# Altium schematic symbol library Analog.SchLib: 140 symbols (part 1 of 2)
Pins are listed as number, name and electrical type; pins without a type are passive.

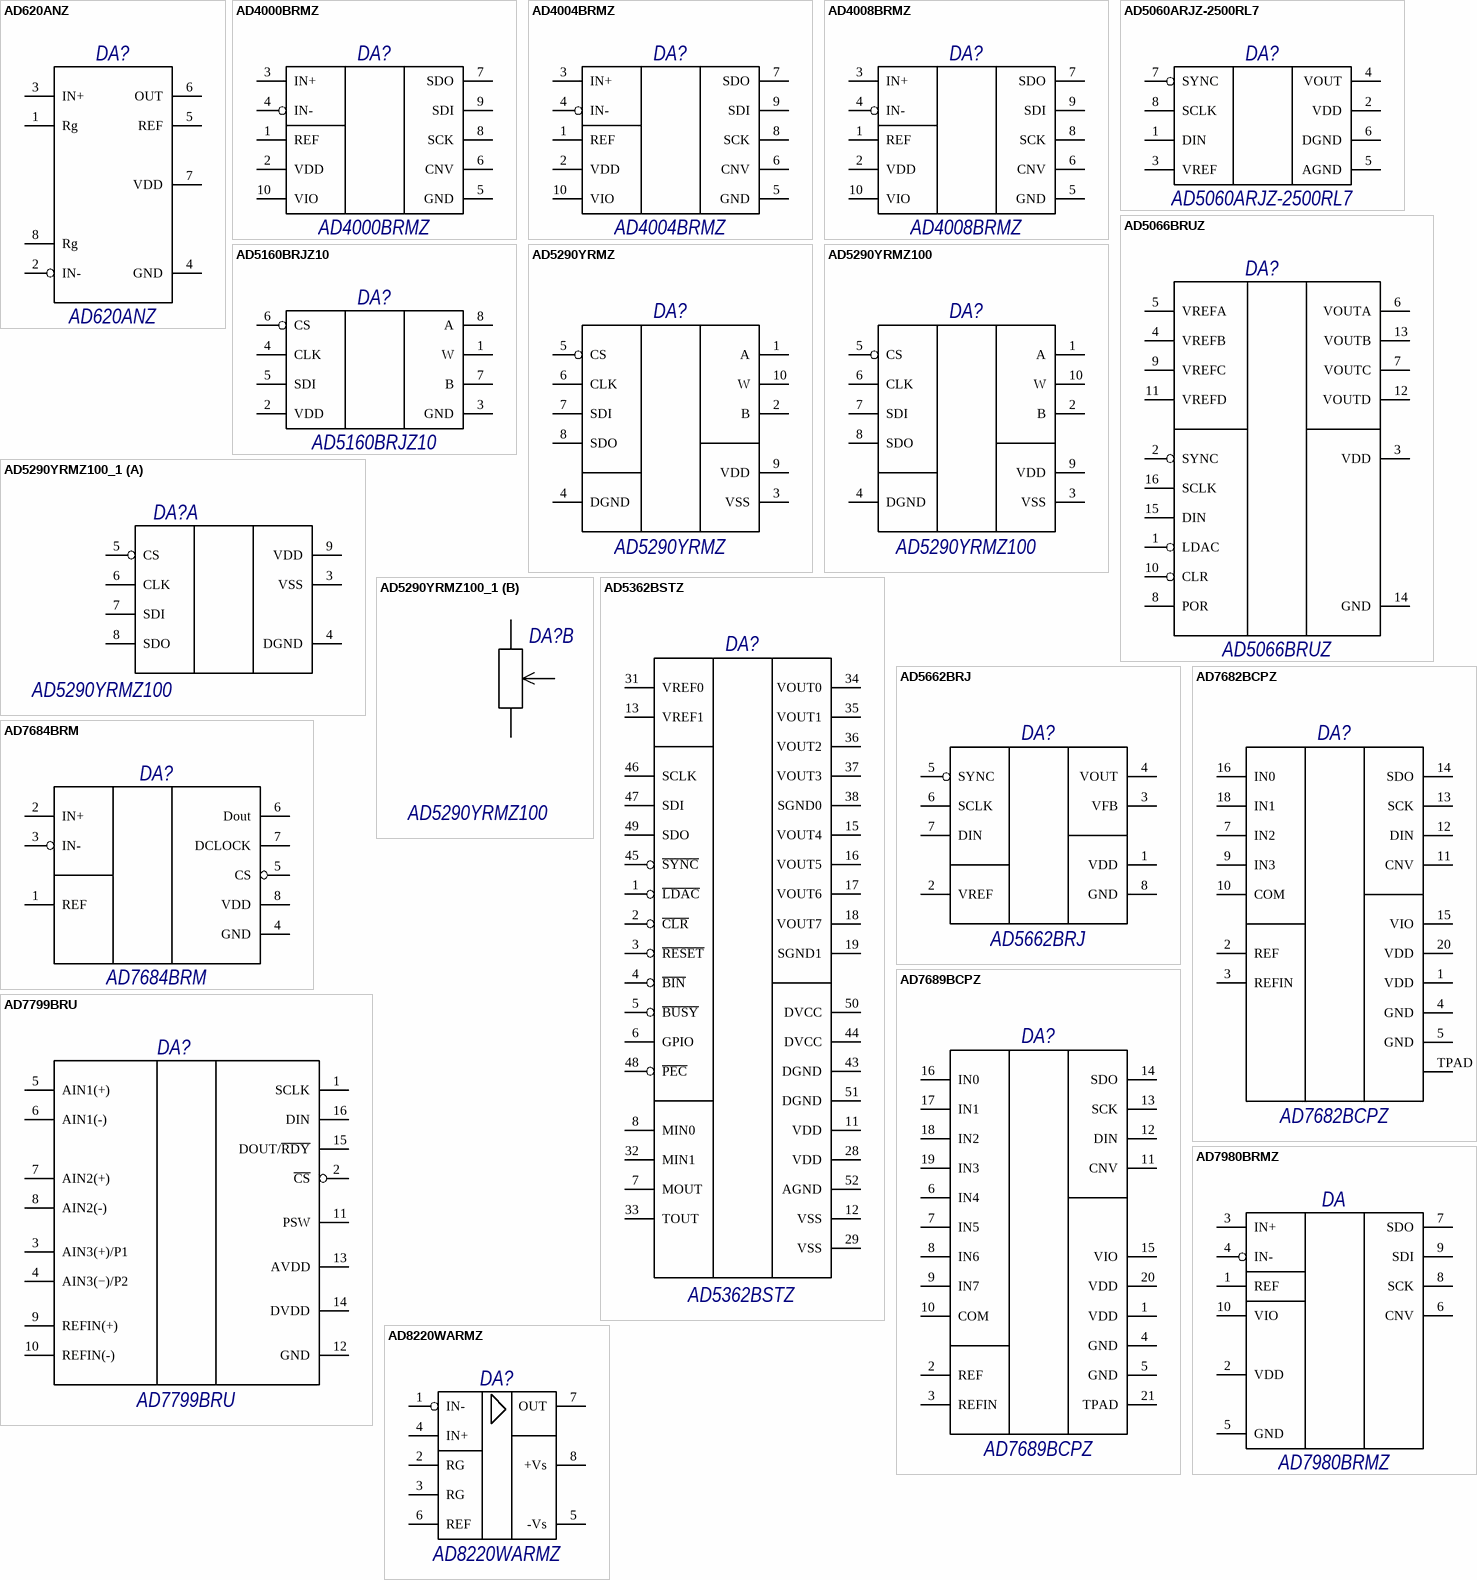
[diagram p0: symbols AD620ANZ to AD8220WARMZ]

## AD620ANZ
designator DA?, comment PartNumber: AD620ANZ  (hidden comment: Микросхема AD620ANZ фирма "Analog Devices")
Low Cost Low PowerInstrumentation Amplifier; Pattern: DIP-8; Manufacturer: Analog Devices; GOST: Микросхема AD620ANZ фирма "Analog Devices"
footprint DIP8W (8-Lead Plastic Dual In-Line Package [PDIP]  Narrow Body (N-8))
pins: 1 Rg, 2 IN-, 3 IN+, 4 GND, 5 REF, 6 OUT, 7 VDD, 8 Rg

## AD4000BRMZ
designator DA?, comment PartNumber: AD4000BRMZ  (hidden comment: Микросхема AD4000BRMZ фирма "Analog Devices")
Precision, Pseudo Differential, SAR ADCs, 16 bit ADC, 2 MSPS; Pattern: MSOP-10; Manufacturer: Analog Devices; GOST: Микросхема AD4000BRMZ фирма "Analog Devices"
footprint MSOP-10 (3.1x1.1mm H=1.1mm)
pins: 1 REF, 2 VDD, 3 IN+, 4 IN-, 5 GND, 6 CNV, 7 SDO, 8 SCK, 9 SDI, 10 VIO

## AD4004BRMZ
designator DA?, comment PartNumber: AD4004BRMZ  (hidden comment: Микросхема AD4004BRMZ фирма "Analog Devices")
Precision, Pseudo Differential, SAR ADCs, 16 bit ADC, 1 MSPS; Pattern: MSOP-10; Manufacturer: Analog Devices; GOST: Микросхема AD4004BRMZ фирма "Analog Devices"
footprint MSOP-10 (3.1x1.1mm H=1.1mm)
pins: 1 REF, 2 VDD, 3 IN+, 4 IN-, 5 GND, 6 CNV, 7 SDO, 8 SCK, 9 SDI, 10 VIO

## AD4008BRMZ
designator DA?, comment PartNumber: AD4008BRMZ  (hidden comment: Микросхема AD4008BRMZ фирма "Analog Devices")
Precision, Pseudo Differential, SAR ADCs, 16 bit ADC, 500 KSPS; Pattern: MSOP-10; Manufacturer: Analog Devices; GOST: Микросхема AD4008BRMZ фирма "Analog Devices"
footprint MSOP-10 (3.1x1.1mm H=1.1mm)
pins: 1 REF, 2 VDD, 3 IN+, 4 IN-, 5 GND, 6 CNV, 7 SDO, 8 SCK, 9 SDI, 10 VIO

## AD5060ARJZ-2500RL7
designator DA?, comment PartNumber: AD5060ARJZ-2500RL7  (hidden comment: Микросхема AD5060ARJZ-2500RL7 фирма "Analog Devices")
16 Bit Digital to Analog Converter 1 SOT-23-8; Manufacturer: Analog Devices; Pattern: SOT-23-8; GOST: Микросхема AD5060ARJZ-2500RL7 фирма "Analog Devices"
footprint SOT-23-8
pins: 1 DIN, 2 VDD, 3 VREF, 4 VOUT, 5 AGND, 6 DGND, 7 SYNC, 8 SCLK

## AD5066BRUZ
designator DA?, comment PartNumber: AD5066BRUZ  (hidden comment: Микросхема AD5066BRUZ фирма "Analog Devices")
16 Bit Digital to Analog Converter 4 16-TSSOP; Pattern: TSSOP-16; Manufacturer: Analog Devices; GOST: Микросхема AD5066BRUZ фирма "Analog Devices"
footprint TSSOP-16 (B=6.6mm Korp=5.1x4.5mm H=1.2mm Pitch=0.65mm)
pins: 1 LDAC, 2 SYNC, 3 VDD, 4 VREFB, 5 VREFA, 6 VOUTA, 7 VOUTC, 8 POR, 9 VREFC, 10 CLR, 11 VREFD, 12 VOUTD, 13 VOUTB, 14 GND, 15 DIN, 16 SCLK

## AD5160BRJZ10
designator DA?, comment PurtNumber: AD5160BRJZ10  (hidden comment: Микросхема AD5160BRJZ10 фирма "Analog Devices")
256-Position SPI Digital Potentiometer 10к; Pattern: SOT-23; Manufacturer: Analog Devices; Name: Digital Potentiometer; GOST: Микросхема AD5160BRJZ10 фирма "Analog Devices"
footprint SOT-23-8
pins: 1 W, 2 VDD, 3 GND, 4 CLK, 5 SDI, 6 CS, 7 B, 8 A

## AD5290YRMZ
designator DA?, comment PartNumber: AD5290YRMZ  (hidden comment: Микросхема AD5290YRMZ фирма "Analog Devices")
Compact +30 V / ±15 V 256-Position   Digital Potentiometer; GOST: Микросхема AD5290YRMZ фирма "Analog Devices"
footprint MSOP-10 (3.1x1.1mm H=1.1mm)
pins: 1 A, 2 B, 3 VSS, 4 DGND, 5 CS, 6 CLK, 7 SDI, 8 SDO, 9 VDD, 10 W

## AD5290YRMZ100
designator DA?, comment PartNumber: AD5290YRMZ100  (hidden comment: Микросхема AD5290YRMZ100 фирма "Analog Devices")
Compact +30 V / ±15 V 256-Position   Digital Potentiometer AB=100 кОм; GOST: Микросхема AD5290YRMZ100 фирма "Analog Devices"
footprint MSOP-10 (3.1x1.1mm H=1.1mm)
pins: 1 A, 2 B, 3 VSS, 4 DGND, 5 CS, 6 CLK, 7 SDI, 8 SDO, 9 VDD, 10 W

## AD5290YRMZ100_1
designator DA?, comment PartNumber: AD5290YRMZ100  (hidden comment: Микросхема AD5290YRMZ100 фирма "Analog Devices")
36V, Low Digital Potentiometer 100k Ohm 1 Circuit 256 Taps SPI Interface 10-MSOP; Prefix: DA; Manufacturer: Analog Devices; Pattern: 10-MSOP; GOST: Микросхема AD5290YRMZ100 фирма "Analog Devices"
footprint MSOP-10 (3.1x3.1mm H=1.1mm)
part A pins: 3 VSS, 4 DGND, 5 CS, 6 CLK, 7 SDI, 8 SDO, 9 VDD
part B pins: 1 A, 2 B, 10 W

## AD5362BSTZ
designator DA?, comment PartNumber: AD5362BSTZ  (hidden comment: Микросхема AD5362BSTZ фирма "Analog Devices")
8-Channel, 16-/14-Bit, Serial Input, Voltage Output DAC; GOST: Микросхема AD5362BSTZ фирма "Analog Devices"
footprint LQFP-52 (body 10x10mm H=1.6mm  step 0.65mm (52-Lead Low Profile Quad Flat Package [LQFP]   (ST-52)))
pins: 1 ~{LDAC}, 2 ~{CLR}, 3 ~{RESET}, 4 ~{BIN}, 5 ~{BUSY}, 6 GPIO, 7 MOUT, 8 MIN0, 11 VDD, 12 VSS, 13 VREF1, 15 VOUT4, 16 VOUT5, 17 VOUT6, 18 VOUT7, 19 SGND1, 28 VDD, 29 VSS, 31 VREF0, 32 MIN1, 33 TOUT, 34 VOUT0, 35 VOUT1, 36 VOUT2, 37 VOUT3, 38 SGND0, 43 DGND, 44 DVCC, 45 ~{SYNC}, 46 SCLK, 47 SDI, 48 ~{PEC}, 49 SDO, 50 DVCC, 51 DGND, 52 AGND

## AD5662BRJ
designator DA?, comment PartNumber: AD5662BRJ  (hidden comment: Микросхема AD5662BRJ фирма "Analog Devices")
2.7 V to 5.5 V, 250 μA, Rail-to-Rail Output  16-Bit nano DAC TM in a SOT-23; GOST: Микросхема AD5662BRJ фирма "Analog Devices"
footprint SOT-23-8
pins: 1 VDD, 2 VREF, 3 VFB, 4 VOUT, 5 SYNC, 6 SCLK, 7 DIN, 8 GND

## AD7682BCPZ
designator DA?, comment PartNumber: AD7682BCPZ  (hidden comment: Микросхема AD7682BCPZ фирма "Analog Devices")
16-Bit, 4-Channel, 250 kSPS PulSAR  ADCs; GOST: Микросхема AD7682BCPZ фирма "Analog Devices"
footprint LFCSP-20 (CP-20-10) (20-Lead Lead Frame Chip Scale Package [LFCSP]  4mm x 4mm Body and 0.75 mm Package Height  (CP-20-10))
footprint LFCSP-20 (CP-20-10) - maska (20-Lead Lead Frame Chip Scale Package [LFCSP]  4mm x 4mm Body and 0.75 mm Package Height  (CP-20-10), изменеа маска пайки радиатора и убраны отв, увеличина длина площадок из под корпуса)
pins: 1 VDD, 2 REF, 3 REFIN, 4 GND, 5 GND, 7 IN2, 9 IN3, 10 COM, 11 CNV, 12 DIN, 13 SCK, 14 SDO, 15 VIO, 16 IN0, 18 IN1, 20 VDD, TPAD

## AD7684BRM
designator DA?, comment PartNumber: AD7684BRM  (hidden comment: Микросхема AD7684BRM фирма "Analog Devices")
16-Bit, 100 kSPS PulSAR,Differential ADC in MSOP-8; Manufacturer: Analog Devices; Pattern: MSOP-8; GOST: Микросхема AD7684BRM фирма "Analog Devices"
footprint MSOP-8 (3x3mm   Micro8, RM-8)
pins: 1 REF, 2 IN+, 3 IN-, 4 GND, 5 CS, 6 Dout, 7 DCLOCK, 8 VDD

## AD7689BCPZ
designator DA?, comment PartNumber: AD7689BCPZ  (hidden comment: Микросхема AD7689BCPZ фирма "Analog Devices")
16-Bit, 8-Channel,  250 kSPS   PulSAR  ADCs; GOST: Микросхема AD7689BCPZ фирма "Analog Devices"
footprint LFCSP-20 (CP-20-10) (20-Lead Lead Frame Chip Scale Package [LFCSP]  4mm x 4mm Body and 0.75 mm Package Height  (CP-20-10))
pins: 1 VDD, 2 REF, 3 REFIN, 4 GND, 5 GND, 6 IN4, 7 IN5, 8 IN6, 9 IN7, 10 COM, 11 CNV, 12 DIN, 13 SCK, 14 SDO, 15 VIO, 16 IN0, 17 IN1, 18 IN2, 19 IN3, 20 VDD, 21 TPAD

## AD7799BRU
designator DA?, comment PartNumber: AD7799BRU  (hidden comment: Микросхема AD7799BRU фирма "Analog Devices")
3-Channel, Low Noise, Low Power,  16-/24-Bit, Σ - Δ ADC with On-Chip In-Amp; GOST: Микросхема AD7799BRU фирма "Analog Devices"
footprint TSSOP-16 (B=6.6mm Korp=5.1x4.5mm H=1.2mm Pitch=0.65mm)
pins: 1 SCLK, 2 ~{CS}, 3 AIN3(+)/P1, 4 AIN3(−)/P2, 5 AIN1(+), 6 AIN1(-), 7 AIN2(+), 8 AIN2(-), 9 REFIN(+), 10 REFIN(-), 11 PSW, 12 GND, 13 AVDD, 14 DVDD, 15 DOUT/~{RDY}, 16 DIN

## AD7980BRMZ
designator DA, comment PartNumber: AD7980BRMZ  (hidden comment: Микросхема AD7980BRMZ фирма "Analog Devices")
16-Bit, 1 MSPS,  PulSAR ADC in MSOP/LFCSP; Name: 16 bit ADC, 1 MSPS; Pattern: MSOP-10; Manufacturer: Analog Device; GOST: Микросхема AD7980BRMZ фирма "Analog Devices"
footprint MSOP-10 (3.1x1.1mm H=1.1mm)
pins: 1 REF, 2 VDD, 3 IN+, 4 IN-, 5 GND, 6 CNV, 7 SDO, 8 SCK, 9 SDI, 10 VIO

## AD8220WARMZ
designator DA?, comment PartNumber: AD8220WARMZ  (hidden comment: Микросхема AD8220WARMZ фирма "Analog Devices")
Instrumentation Amplifier 1 Circuit Rail-to-Rail 8-MSOP; Manufacturer: Analog Devices; Name: Instrumentation Amplifier 1 Circuit Rail-to-Rail 8-MSOP; GOST: Микросхема AD8220WARMZ фирма "Analog Devices"
footprint MSOP-8 (3x3mm   Micro8, RM-8)
pins: 1 IN-, 2 RG, 3 RG, 4 IN+, 5 -Vs, 6 REF, 7 OUT, 8 +Vs

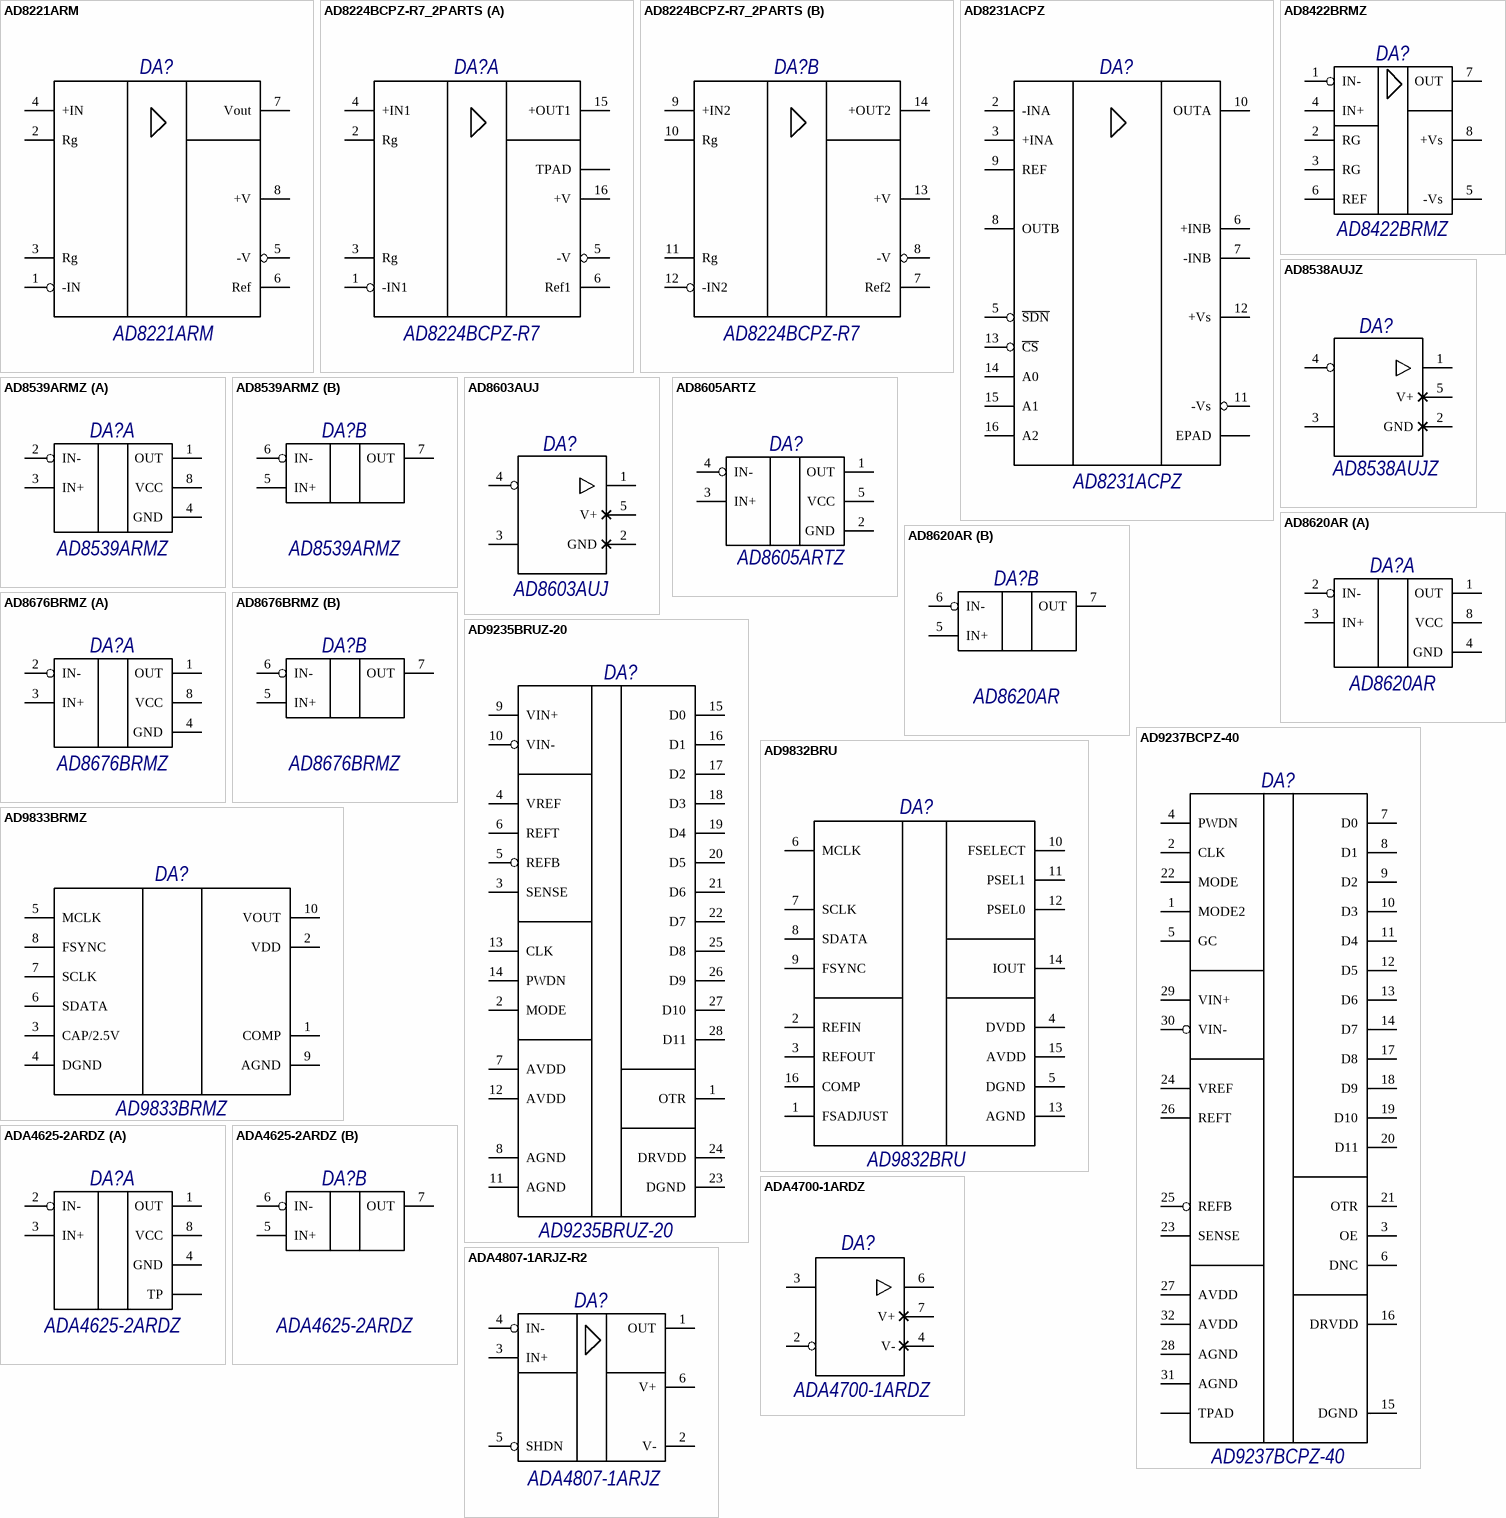
[diagram p1: symbols AD8221ARM to ADA4807-1ARJZ-R2]

## AD8221ARM
designator DA?, comment PartNumber: AD8221ARM  (hidden comment: Микросхема AD8221ARM фирма "Analog Devices")
Precision Instrumentation Amplifier, +85 C; GOST: Микросхема AD8221ARM фирма "Analog Devices"
footprint MSOP-8 (3x3mm   Micro8, RM-8)
pins: 1 -IN, 2 Rg, 3 Rg, 4 +IN, 5 -V, 6 Ref, 7 Vout, 8 +V

## AD8224BCPZ-R7_2PARTS
designator DA?, comment PartNumber: AD8224BCPZ-R7  (hidden comment: Микросхема AD8224BCPZ-R7 фирма "Analog Devices")
Ultralow Power, Low Distortion,  Fully Differential ADC Drivers; GOST: Микросхема AD8224BCPZ-R7 фирма "Analog Devices"
part A pins: 1 -IN1, 2 Rg, 3 Rg, 4 +IN1, 5 -V, 6 Ref1, 15 +OUT1, 16 +V, TPAD
part B pins: 7 Ref2, 8 -V, 9 +IN2, 10 Rg, 11 Rg, 12 -IN2, 13 +V, 14 +OUT2

## AD8231ACPZ
designator DA?, comment PartNumber: AD8231ACPZ  (hidden comment: Микросхема AD8231ACPZ фирма "Analog Devices")
Zero Drift, Digitally Programmable Instrumentation Amplifier; GOST: Микросхема AD8231ACPZ фирма "Analog Devices"
footprint LFCSP-16 (CP-16-23) (16-Lead Lead Frame Chip Scale Package [LFCSP]  4 mm x 4 mm Body and 0.75 mm Package Height  (CP-16-23) AD)
pins: 2 -INA, 3 +INA, 5 ~{SDN}, 6 +INB, 7 -INB, 8 OUTB, 9 REF, 10 OUTA, 11 -Vs, 12 +Vs, 13 ~{CS}, 14 A0, 15 A1, 16 A2, TPAD EPAD

## AD8422BRMZ
designator DA?, comment PartNumber: AD8422BRMZ  (hidden comment: Микросхема AD8422BRMZ фирма "Analog Devices")
High Performance, Low Power, Rail-to-Rail Precision Instrumentation Amplifier 2MHz, MSOP-8; Name: Instrumentation Amplifier 1 Circuit Rail-to-Rail 8-MSOP; Manufacturer: Analog Devices; GOST: Микросхема AD8422BRMZ фирма "Analog Devices"
footprint MSOP-8 (3x3mm   Micro8, RM-8)
pins: 1 IN-, 2 RG, 3 RG, 4 IN+, 5 -Vs, 6 REF, 7 OUT, 8 +Vs

## AD8538AUJZ
designator DA?, comment PartNumber: AD8538AUJZ  (hidden comment: Микросхема AD8538AUJZ фирма "Analog Devices")
Low Power, Precision, Auto-Zero Op Amps; GOST: Микросхема AD8538AUJZ фирма "Analog Devices"
footprint TSOT-23-5 (Корпус 2.9х1.6х1 step 0.95mm)
pins: 1, 2 GND, 3, 4, 5 V+

## AD8539ARMZ
designator DA?, comment PartNumber: AD8539ARMZ  (hidden comment: Микросхема AD8539ARMZ фирма "Analog Devices")
Low Power, Precision, Auto-Zero Op Amps; Name: Operational Amplifier; Pattern: 8-Lead MSOP (RM-8); Prefix: DA; Manufacturer: Analog Devices; GOST: Микросхема AD8539ARMZ фирма "Analog Devices"
footprint MSOP-8 (3x3mm   Micro8, RM-8)
part A pins: 1 OUT, 2 IN-, 3 IN+, 4 GND (power), 8 VCC (power)
part B pins: 5 IN+, 6 IN-, 7 OUT

## AD8603AUJ
designator DA?, comment PartNumber: AD8603AUJ  (hidden comment: Микросхема AD8603AUJ фирма "Analog Devices")
Precision Micropower, Low Noise CMOS,  Rail-to-Rail Input/Output Operational Amplifiers; GOST: Микросхема AD8603AUJ фирма "Analog Devices"
footprint SOT-23-5
pins: 1, 2 GND, 3, 4, 5 V+

## AD8605ARTZ
designator DA?, comment PartNumber: AD8605ARTZ  (hidden comment: Микросхема AD8605ARTZ фирма "Analog Devices")
Precision, Low Noise, CMOS, Rail-to-Rail, Input/Output Operational Amplifiers; GOST: Микросхема AD8605ARTZ фирма "Analog Devices"
footprint SOT-23-5
pins: 1 OUT, 2 GND (power), 3 IN+, 4 IN-, 5 VCC (power)

## AD8620AR
designator DA?, comment PartNumber: AD8620AR  (hidden comment: Микросхема AD8620AR фирма "Analog Devices")
Precision, Very Low Noise, Low Input Bias Current, Wide Bandwidth JFET Operational Amplifiers; Pattern: SO-8; Prefix: DA; Manufacturer: Analog Devices; Name: Operational Amplifier; GOST: Микросхема AD8620AR фирма "Analog Devices"
footprint SO-8 (S8 Package (AD)) (5x4mm H=1.75mm - S8 Package 8-Lead Plastic Small Outline (Narrow .150 Inch) (AD))
part A pins: 1 OUT, 2 IN-, 3 IN+, 4 GND (power), 8 VCC (power)
part B pins: 5 IN+, 6 IN-, 7 OUT

## AD8676BRMZ
designator DA?, comment PartNumber: AD8676BRMZ  (hidden comment: Микросхема AD8676BRMZ фирма "Analog Devices")
Ultraprecision, 36 V, 2.8 nV/√Hz  Dual Rail-to-Rail Output Op Amp; Name: Operational Amplifier; Pattern: 8-Lead MSOP (RM-8); Prefix: DA; Manufacturer: Analog Devices; GOST: Микросхема AD8676BRMZ фирма "Analog Devices"
footprint MSOP-8 (3x3mm   Micro8, RM-8)
part A pins: 1 OUT, 2 IN-, 3 IN+, 4 GND (power), 8 VCC (power)
part B pins: 5 IN+, 6 IN-, 7 OUT

## AD9235BRUZ-20
designator DA?, comment PartNumber: AD9235BRUZ-20  (hidden comment: Микросхема AD9235BRUZ-20 фирма "Analog Devices")
Analog to Digital Converters - ADC 12-BIT 3V 20 MSPS ADC; Pattern: TSSOP-28; Manufacturer: Analog Devices; GOST: Микросхема AD9235BRUZ-20 фирма "Analog Devices"
footprint TSSOP-28 (body 9.7x4.4mm H=1.2mm pitch 0.65mm)
pins: 1 OTR, 2 MODE, 3 SENSE, 4 VREF, 5 REFB, 6 REFT, 7 AVDD, 8 AGND, 9 VIN+, 10 VIN-, 11 AGND, 12 AVDD, 13 CLK, 14 PWDN, 15 D0, 16 D1, 17 D2, 18 D3, 19 D4, 20 D5, 21 D6, 22 D7, 23 DGND, 24 DRVDD, 25 D8, 26 D9, 27 D10, 28 D11

## AD9237BCPZ-40
designator DA?, comment PartNumber: AD9237BCPZ-40  (hidden comment: Микросхема AD9237BCPZ-40 фирма "Analog Devices")
Analog to Digital Converters - ADC 12-BIT 3V 40 MSPS ADC; Pattern: LFCSP-32; Manufacturer: Analog Devices; GOST: Микросхема AD9237BCPZ-40 фирма "Analog Devices"
footprint LFCSP_WQ-32 (CP-32-7) (32-Lead Lead Frame Chip Scale Package [LFCSP_WQ]  5 mm ? 5 mm Body, Very Very Thin Quad  (CP-32-7))
pins: 1 MODE2, 2 CLK, 3 OE, 4 PWDN, 5 GC, 6 DNC, 7 D0, 8 D1, 9 D2, 10 D3, 11 D4, 12 D5, 13 D6, 14 D7, 15 DGND, 16 DRVDD, 17 D8, 18 D9, 19 D10, 20 D11, 21 OTR, 22 MODE, 23 SENSE, 24 VREF, 25 REFB, 26 REFT, 27 AVDD, 28 AGND, 29 VIN+, 30 VIN-, 31 AGND, 32 AVDD, TPAD

## AD9832BRU
designator DA?, comment PartNumber: AD9832BRU  (hidden comment: Микросхема AD9832BRU фирма "Analog Devices")
25 MHz Direct Digital Synthesizer,  Waveform Generator; GOST: Микросхема AD9832BRU фирма "Analog Devices"
footprint TSSOP-16 (5.1x4.5mm H=1.2mm)
pins: 1 FSADJUST, 2 REFIN, 3 REFOUT, 4 DVDD, 5 DGND, 6 MCLK, 7 SCLK, 8 SDATA, 9 FSYNC, 10 FSELECT, 11 PSEL1, 12 PSEL0, 13 AGND, 14 IOUT, 15 AVDD, 16 COMP

## AD9833BRMZ
designator DA?, comment PartNumber: AD9833BRMZ  (hidden comment: Микросхема AD9833BRMZ фирма "Analog Devices")
25 MHz Direct Digital Synthesizer,  Waveform Generator; GOST: Микросхема AD9833BRMZ фирма "Analog Devices"
footprint MSOP-10 (3.1x1.1mm H=1.1mm)
pins: 1 COMP, 2 VDD, 3 CAP/2.5V, 4 DGND, 5 MCLK, 6 SDATA, 7 SCLK, 8 FSYNC, 9 AGND, 10 VOUT

## ADA4625-2ARDZ
designator DA?, comment PartNumber: ADA4625-2ARDZ  (hidden comment: Микросхема ADA4625-2ARDZ фирма "Analog Devices")
36 V, 18 MHz, Low Noise, Fast Settling  Single Supply, RRO, JFET Op Amp; Name: Operational Amplifier; Pattern: 8-Lead Standard Small Outline Package with Exposed Pad [SOIC_N_EP]  Narrow Body  (RD-8-1); Prefix: DA; Manufacturer: Analog Devices; GOST: Микросхема ADA4625-2ARDZ фирма "Analog Devices"
footprint SO-8_N_EP (RD-8-1, RD-8-2) (5x4mm H=1.75mm 8-Lead Standard Small Outline Package with Exposed Pad [SOIC_N_EP] Narrow Body (RD-8-1, RD-8-2))
part A pins: 1 OUT, 2 IN-, 3 IN+, 4 GND (power), 8 VCC (power), TP (power)
part B pins: 5 IN+, 6 IN-, 7 OUT

## ADA4700-1ARDZ
designator DA?, comment PartNumber: ADA4700-1ARDZ  (hidden comment: Микросхема ADA4700-1ARDZ фирма "Analog Devices")
General Purpose Amplifier 1 Circuit Rail-to-Rail 8-SOIC-EP; GOST: Микросхема ADA4700-1ARDZ фирма "Analog Devices"
footprint SO-8_N_EP (5x4mm H=1.75mm 8-Lead Standard Small Outline Package with Exposed Pad [SOIC_N_EP]Narrow Body(RD-8-2))
pins: 2, 3, 4 V-, 6, 7 V+, TP

## ADA4807-1ARJZ-R2
designator DA?, comment Name: ADA4807-1ARJZ  (hidden comment: Микросхема ADA4807-1ARJZ-R2 фирма "Analog Devices")
180MHz, 1mA Power  Efficient Rail-to-Rail  I/O Opamp; Pattern: TSOT-23; Prefix: DA?; Manufacturer: Analog Devices; GOST: Микросхема ADA4807-1ARJZ-R2 фирма "Analog Devices"
footprint SOT-23-6
pins: 1 OUT, 2 V-, 3 IN+, 4 IN-, 5 SHDN, 6 V+

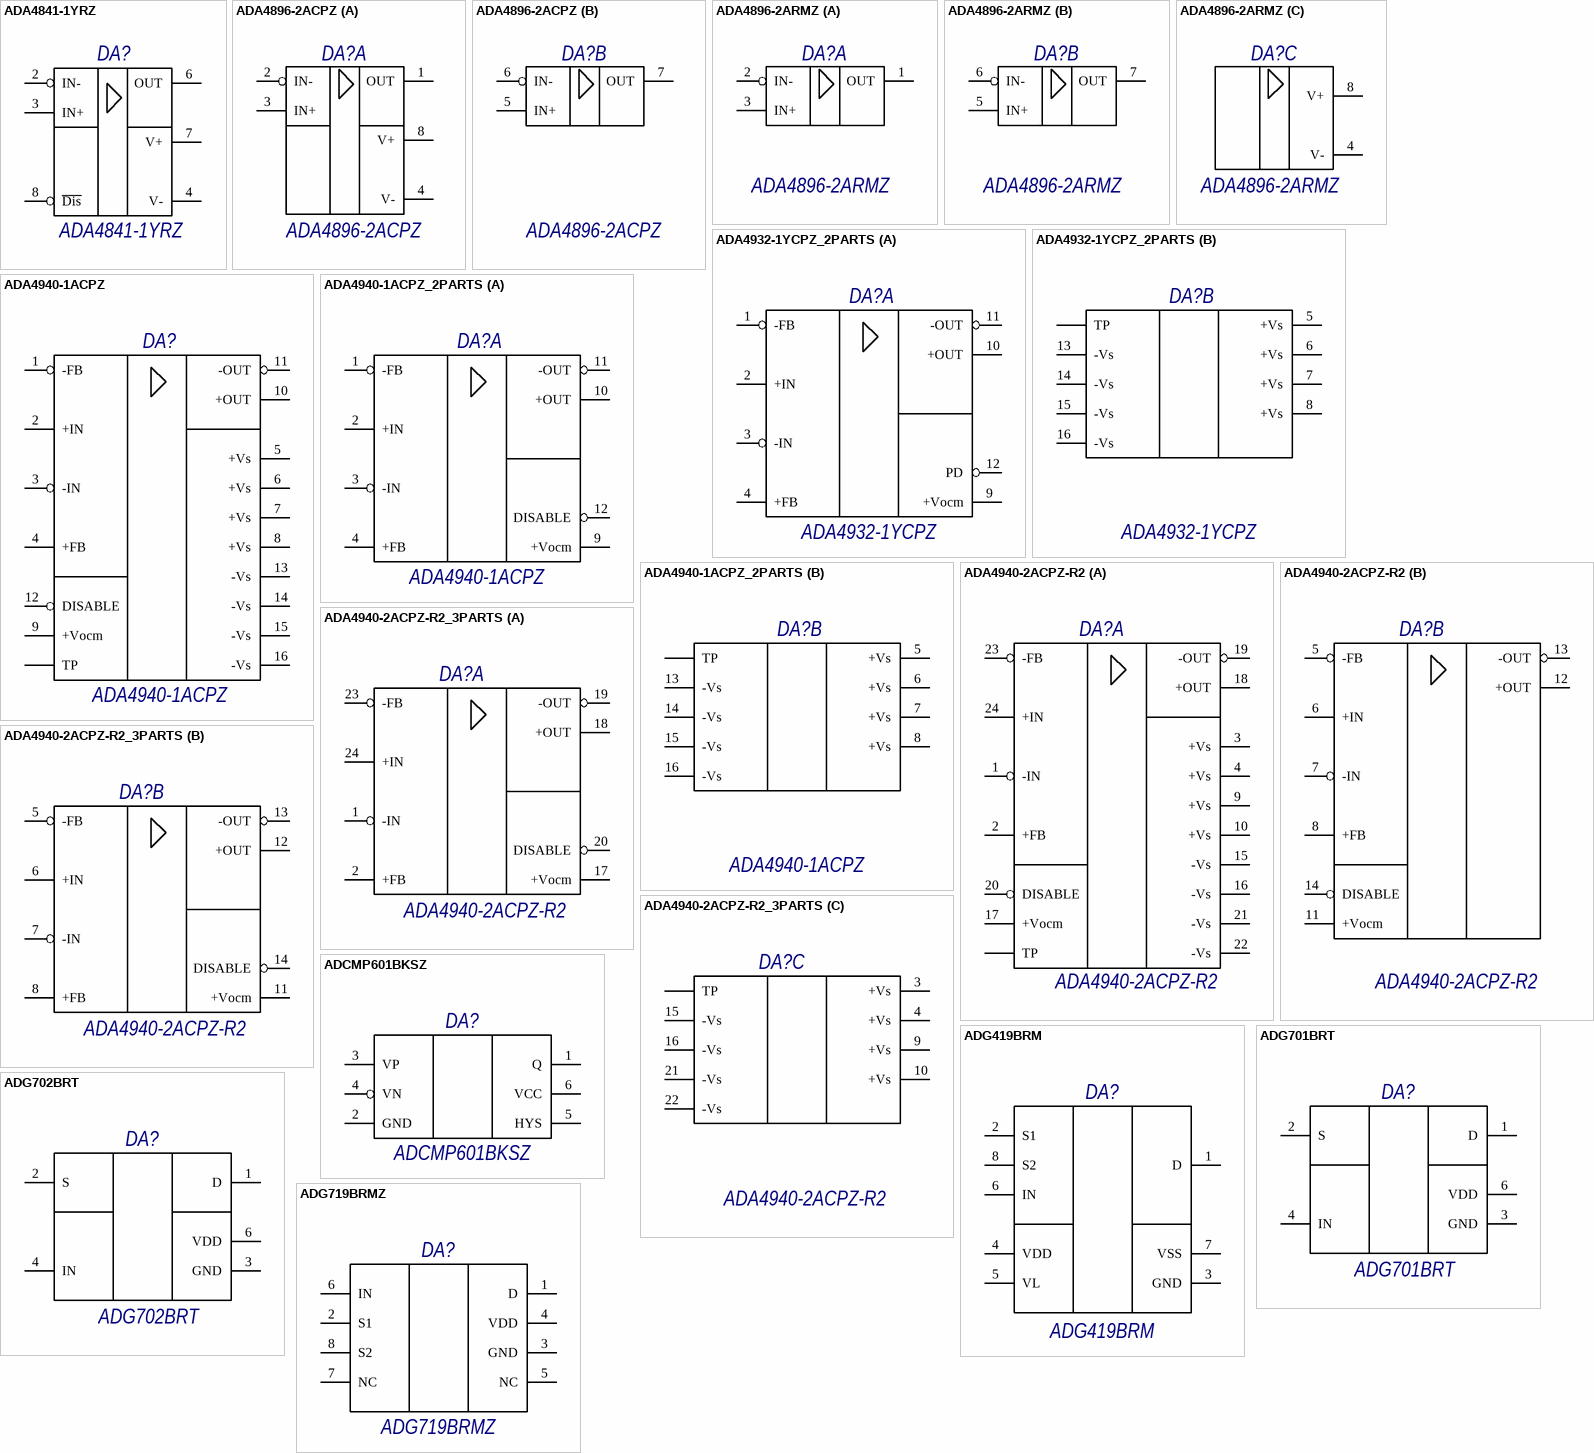
[diagram p2: symbols ADA4841-1YRZ to ADG719BRMZ]

## ADA4841-1YRZ
designator DA?, comment Name: ADA4841-1YRZ  (hidden comment: Микросхема ADA4841-1YRZ фирма "Analog Devices")
Low Power, Low Noise and Distortion, Rail-to-Rail Output Amplifiers; Pattern: SO-8; Prefix: DA?; Manufacturer: Analog Devices; GOST: Микросхема ADA4841-1YRZ фирма "Analog Devices"
footprint SO-8 (5x4mm H=1.75mm)
pins: 2 IN-, 3 IN+, 4 V-, 6 OUT, 7 V+, 8 ~{Dis}

## ADA4896-2ACPZ
designator DA?, comment PartNumber: ADA4896-2ACPZ  (hidden comment: Микросхема ADA4896-2ACPZ фирма "Analog Devices")
1 nV/√Hz, Low Power,  Rail-to-Rail Output Amplifiers; Pattern: 8-Lead LFCSP_WD (CP-8-11); GOST: Микросхема ADA4896-2ACPZ фирма "Analog Devices"
footprint LFCSP_WD (CP-8-11) (8-Lead Lead Frame Chip Scale Package [LFCSP_WD]   3 mm ? 3 mm Body, Very Very Thin, Dual Lead    (CP-8-11))
part A pins: 1 OUT, 2 IN-, 3 IN+, 4 V-, 8 V+
part B pins: 5 IN+, 6 IN-, 7 OUT

## ADA4896-2ARMZ
designator DA?, comment PartNumber: ADA4896-2ARMZ  (hidden comment: Микросхема ADA4896-2ARMZ фирма "Analog Devices")
1 nV/√Hz, Low Power,  Rail-to-Rail Output Amplifiers; Pattern: MSOP-8; GOST: Микросхема ADA4896-2ARMZ фирма "Analog Devices"
footprint MSOP-8 (3x3mm   Micro8, RM-8)
part A pins: 1 OUT, 2 IN-, 3 IN+
part B pins: 5 IN+, 6 IN-, 7 OUT
part C pins: 4 V-, 8 V+

## ADA4932-1YCPZ_2PARTS
designator DA?, comment PartNumber: ADA4932-1YCPZ  (hidden comment: Микросхема ADA4932-1YCPZ фирма "Analog Devices")
Low Power,  Differential ADC Driver; GOST: Микросхема ADA4932-1YCPZ фирма "Analog Devices"
footprint LFCSP-16 (CP-16-21) (16-Lead Lead Frame Chip Scale Package [LFCSP]  3 mm ? 3 mm Body and 0.75 mm Package Height  (CP-16-21))
part A pins: 1 -FB, 2 +IN, 3 -IN, 4 +FB, 9 +Vocm, 10 +OUT, 11 -OUT, 12 PD
part B pins: 5 +Vs, 6 +Vs, 7 +Vs, 8 +Vs, 13 -Vs, 14 -Vs, 15 -Vs, 16 -Vs, TPAD TP

## ADA4940-1ACPZ
designator DA?, comment PartNumber: ADA4940-1ACPZ  (hidden comment: Микросхема ADA4940-1ACPZ фирма "Analog Devices")
Ultralow Power, Low Distortion,  Fully Differential ADC Drivers; GOST: Микросхема ADA4940-1ACPZ фирма "Analog Devices"
footprint LFCSP-16 (CP-16-21) (16-Lead Lead Frame Chip Scale Package [LFCSP]  3 mm ? 3 mm Body and 0.75 mm Package Height  (CP-16-21))
pins: 1 -FB, 2 +IN, 3 -IN, 4 +FB, 5 +Vs, 6 +Vs, 7 +Vs, 8 +Vs, 9 +Vocm, 10 +OUT, 11 -OUT, 12 DISABLE, 13 -Vs, 14 -Vs, 15 -Vs, 16 -Vs, TPAD TP

## ADA4940-1ACPZ_2PARTS
designator DA?, comment PartNumber: ADA4940-1ACPZ  (hidden comment: Микросхема ADA4940-1ACPZ фирма "Analog Devices")
Ultralow Power, Low Distortion,  Fully Differential ADC Drivers; GOST: Микросхема ADA4940-1ACPZ фирма "Analog Devices"
footprint LFCSP-16 (CP-16-21) (16-Lead Lead Frame Chip Scale Package [LFCSP]  3 mm ? 3 mm Body and 0.75 mm Package Height  (CP-16-21))
part A pins: 1 -FB, 2 +IN, 3 -IN, 4 +FB, 9 +Vocm, 10 +OUT, 11 -OUT, 12 DISABLE
part B pins: 5 +Vs, 6 +Vs, 7 +Vs, 8 +Vs, 13 -Vs, 14 -Vs, 15 -Vs, 16 -Vs, TPAD TP

## ADA4940-2ACPZ-R2
designator DA?, comment PartNumber: ADA4940-2ACPZ-R2  (hidden comment: Микросхема ADA4940-2ACPZ-R2 фирма "Analog Devices")
Ultralow Power, Low Distortion,  Fully Differential ADC Drivers; GOST: Микросхема ADA4940-2ACPZ-R2 фирма "Analog Devices"
footprint LFCSP-24 (CP-24-7) (24-Lead Lead Frame Chip Scale Package [LFCSP]    4 mm ? 4 mm Body and 0.75 mm Package Height   (CP-24-7))
part A pins: 1 -IN, 2 +FB, 3 +Vs (power), 4 +Vs (power), 9 +Vs (power), 10 +Vs (power), 15 -Vs (power), 16 -Vs (power), 17 +Vocm, 18 +OUT, 19 -OUT, 20 DISABLE, 21 -Vs (power), 22 -Vs (power), 23 -FB, 24 +IN, TPAD TP (power)
part B pins: 5 -FB, 6 +IN, 7 -IN, 8 +FB, 11 +Vocm, 12 +OUT, 13 -OUT, 14 DISABLE

## ADA4940-2ACPZ-R2_3PARTS
designator DA?, comment PartNumber: ADA4940-2ACPZ-R2  (hidden comment: Микросхема ADA4940-2ACPZ-R2 фирма "Analog Devices")
Ultralow Power, Low Distortion,  Fully Differential ADC Drivers; GOST: Микросхема ADA4940-2ACPZ-R2 фирма "Analog Devices"
footprint LFCSP-24 (CP-24-7) (24-Lead Lead Frame Chip Scale Package [LFCSP]    4 mm ? 4 mm Body and 0.75 mm Package Height   (CP-24-7))
part A pins: 1 -IN, 2 +FB, 17 +Vocm, 18 +OUT, 19 -OUT, 20 DISABLE, 23 -FB, 24 +IN
part B pins: 5 -FB, 6 +IN, 7 -IN, 8 +FB, 11 +Vocm, 12 +OUT, 13 -OUT, 14 DISABLE
part C pins: 3 +Vs (power), 4 +Vs (power), 9 +Vs (power), 10 +Vs (power), 15 -Vs (power), 16 -Vs (power), 21 -Vs (power), 22 -Vs (power), TPAD TP (power)

## ADCMP601BKSZ
designator DA?, comment PartNumber: ADCMP601BKSZ  (hidden comment: Микросхема ADCMP601BKSZ фирма "Analog Devices")
2.7 V to 5.Rail-to-Rail, Very Fast Comparator; GOST: Микросхема ADCMP601BKSZ фирма "Analog Devices"
footprint SC-70-6 (2.15x1.4x1.1)
pins: 1 Q, 2 GND, 3 VP, 4 VN, 5 HYS, 6 VCC

## ADG419BRM
designator DA?, comment PartNumber: ADG419BRM  (hidden comment: Микросхема ADG419BRM фирма "Analog Devices")
LC 2 MOS Precision  Mini-DIP Analog Switch; GOST: Микросхема ADG419BRM фирма "Analog Devices"
footprint MSOP-8 (RM-8)
pins: 1 D, 2 S1, 3 GND, 4 VDD, 5 VL, 6 IN, 7 VSS, 8 S2

## ADG701BRT
designator DA?, comment PartNumber: ADG701BRT  (hidden comment: Микросхема ADG701BRT фирма "Analog devices")
CMOS Low Voltage 2 Ω SPST Switch; GOST: Микросхема ADG701BRT фирма "Analog devices"
footprint SOT-23-6
pins: 1 D, 2 S, 3 GND, 4 IN, 6 VDD

## ADG702BRT
designator DA?
CMOS Low Voltage 2 Ω SPST Switch; GOST: Микросхема ADG702BRT фирма "Analog devices"; PartNumber: ADG702BRT
footprint SOT-23-6
pins: 1 D, 2 S, 3 GND, 4 IN, 6 VDD

## ADG719BRMZ
designator DA?, comment PartNumber: ADG719BRMZ  (hidden comment: Микросхема ADG719BRMZ фирма "Analog Devices")
1 Circuit IC Switch 2:1 4Ohm 8-MSOP; GOST: Микросхема ADG719BRMZ фирма "Analog Devices"; Pattern: 8-MSOP
footprint MSOP-8 (3x3mm   Micro8, RM-8)
pins: 1 D, 2 S1, 3 GND, 4 VDD, 5 NC, 6 IN, 7 NC, 8 S2

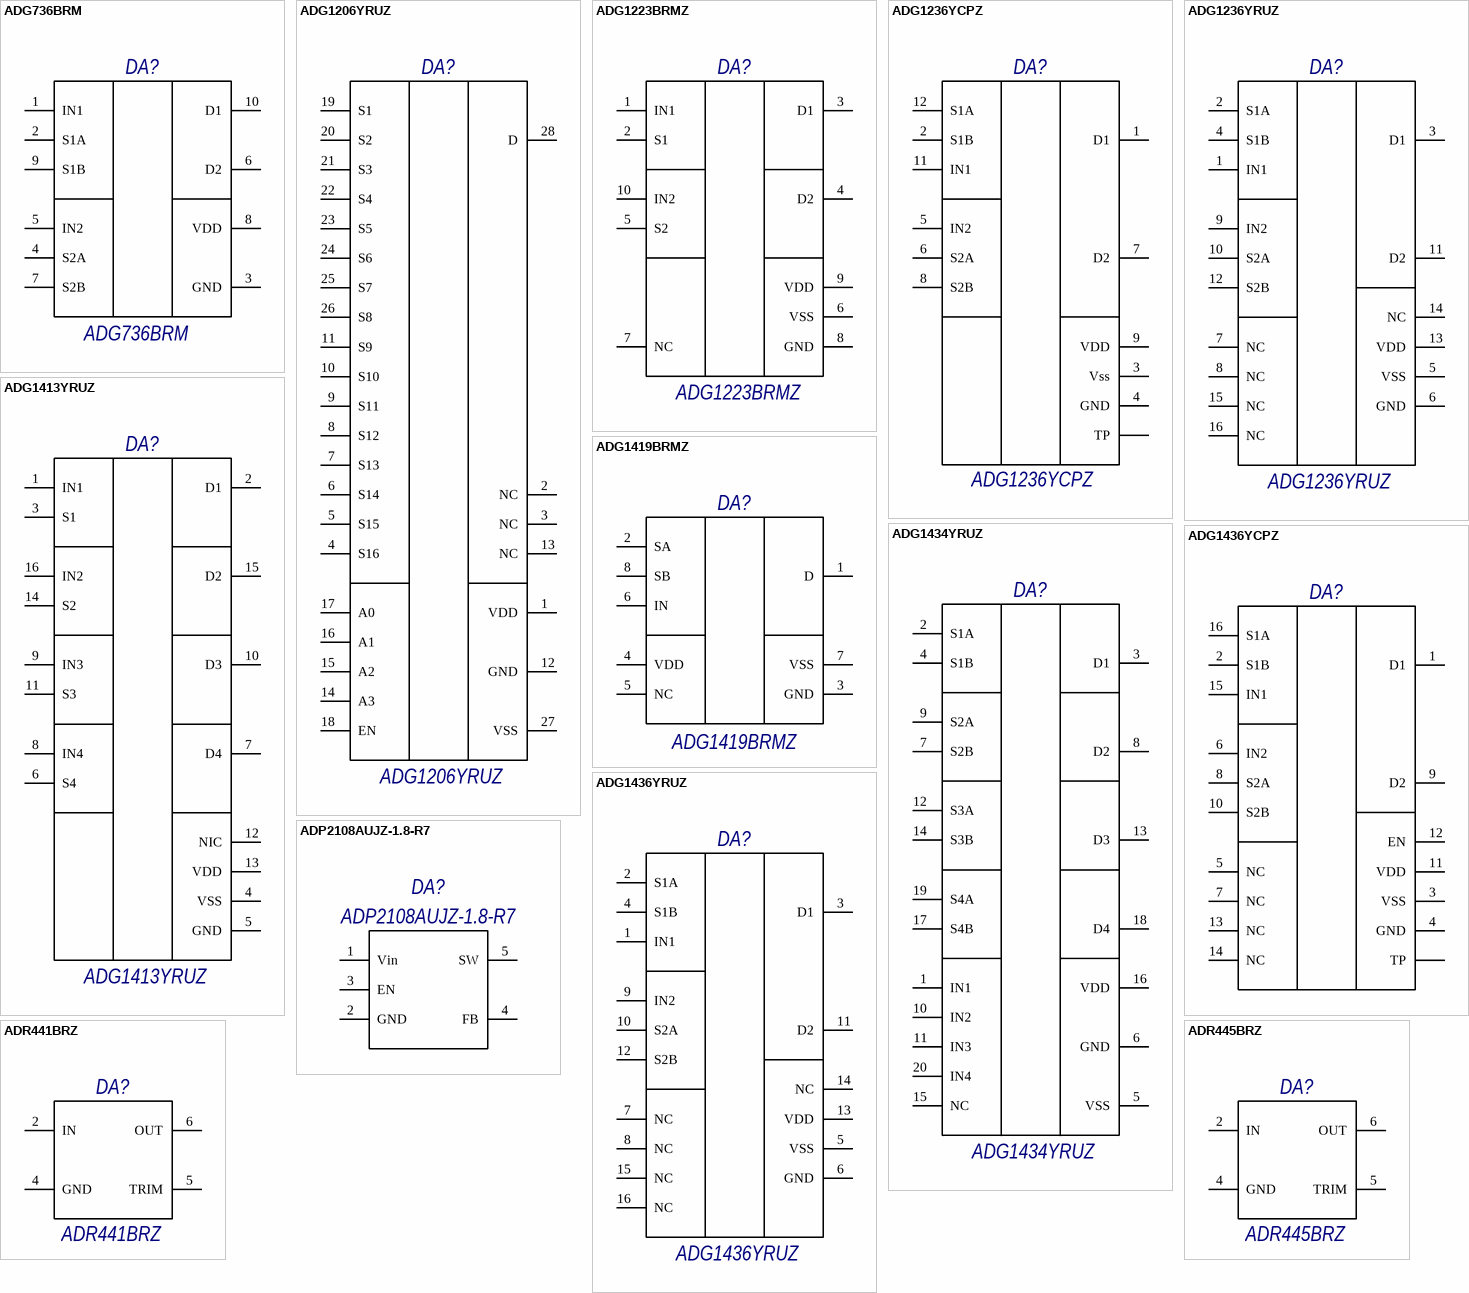
[diagram p3: symbols ADG736BRM to ADR445BRZ]

## ADG736BRM
designator DA?, comment PartNumber: ADG736BRM  (hidden comment: Микросхема ADG736BRM фирма "Analog Devices")
CMOS Low Voltage 2.5 Ω Dual SPDT Switch; GOST: Микросхема ADG736BRM фирма "Analog Devices"
footprint MSOP-10 (3.1x1.1mm H=1.1mm)
pins: 1 IN1, 2 S1A, 3 GND, 4 S2A, 5 IN2, 6 D2, 7 S2B, 8 VDD, 9 S1B, 10 D1

## ADG1206YRUZ
designator DA?, comment PartNumber: ADG1206YRUZ  (hidden comment: Микросхема ADG1206YRUZ фирма "Analog Devices")
Low Capacitance, 16- and 8-Channel, ±15 V/+12 V i CMOS Multiplexers; GOST: Микросхема ADG1206YRUZ фирма "Analog Devices"
footprint TSSOP-28 (body 9.7x4.4mm H=1.2mm pitch 0.65mm)
pins: 1 VDD, 2 NC, 3 NC, 4 S16, 5 S15, 6 S14, 7 S13, 8 S12, 9 S11, 10 S10, 11 S9, 12 GND, 13 NC, 14 A3, 15 A2, 16 A1, 17 A0, 18 EN, 19 S1, 20 S2, 21 S3, 22 S4, 23 S5, 24 S6, 25 S7, 26 S8, 27 VSS, 28 D
1 alternate drawing of the same symbol

## ADG1223BRMZ
designator DA?, comment PartNumber: ADG1223BRMZ  (hidden comment: Микросхема ADG1223BRMZ фирма "Analog Devices")
Dual SPST Switches, Low Capacitance, Low Charge Injection,  ±15 V/+12 V iCMOS; GOST: Микросхема ADG1223BRMZ фирма "Analog Devices"
footprint MSOP-10 (3.1x3.1mm H=1.1mm)
pins: 1 IN1, 2 S1, 3 D1, 4 D2, 5 S2, 6 VSS, 7 NC, 8 GND, 9 VDD, 10 IN2
1 alternate drawing of the same symbol

## ADG1236YCPZ
designator DA?, comment PartNumber: ADG1236YCPZ  (hidden comment: Микросхема ADG1236YCPZ фирма "Analog Devices")
Dual SPDT Switch, Low Capacitance, Low Charge Injection,  ±15 V/12 V iCMOS; GOST: Микросхема ADG1236YCPZ фирма "Analog Devices"
footprint LFCSP-12 (CP-12-4) (12-Lead Lead Frame Chip Scale Package [LFCSP]  3 mm ? 3 mm Body and 0.75 mm Package Height  (CP-12-4)
pins: 1 D1, 2 S1B, 3 Vss, 4 GND, 5 IN2, 6 S2A, 7 D2, 8 S2B, 9 VDD, 11 IN1, 12 S1A, TPAD TP

## ADG1236YRUZ
designator DA?, comment PartNumber: ADG1236YRUZ  (hidden comment: Микросхема ADG1236YRUZ фирма "Analog Devices")
Dual SPDT Switch, Low Capacitance, Low Charge Injection,  ±15 V/12 V iCMOS; GOST: Микросхема ADG1236YRUZ фирма "Analog Devices"
footprint TSSOP-16 (5.1x4.5mm H=1.2mm)
pins: 1 IN1, 2 S1A, 3 D1, 4 S1B, 5 VSS, 6 GND, 7 NC, 8 NC, 9 IN2, 10 S2A, 11 D2, 12 S2B, 13 VDD, 14 NC, 15 NC, 16 NC

## ADG1413YRUZ
designator DA?, comment PartNumber: ADG1413YRUZ  (hidden comment: Микросхема ADG1413YRUZ фирма "Analog Devices")
Quad SPST Switches, 1.5 Ω On Resistance, ±15 V/+12 V/±5 V, iCMOS; GOST: Микросхема ADG1413YRUZ фирма "Analog Devices"
footprint TSSOP-16 (5.1x4.5mm H=1.2mm)
pins: 1 IN1, 2 D1, 3 S1, 4 VSS, 5 GND, 6 S4, 7 D4, 8 IN4, 9 IN3, 10 D3, 11 S3, 12 NIC, 13 VDD, 14 S2, 15 D2, 16 IN2
1 alternate drawing of the same symbol

## ADG1419BRMZ
designator DA?, comment PartNumber: ADG1419BRMZ  (hidden comment: Микросхема ADG1419BRMZ фирма "Analog Devices")
SPDT Switch, 2.1 Ω On Resistance, ±15 V/+12 V/±5 V, iCMOS; Pattern: MSOP-8; GOST: Микросхема ADG1419BRMZ фирма "Analog Devices"
footprint MSOP-8 (3x3mm   Micro8, RM-8)
pins: 1 D, 2 SA, 3 GND, 4 VDD, 5 NC, 6 IN, 7 VSS, 8 SB

## ADG1434YRUZ
designator DA?, comment PartNumber: ADG1434YRUZ  (hidden comment: Микросхема ADG1434YRUZ фирма "Analog Devices")
4 Ω RON, Triple/Quad SPDT ±15 V/+12 V/±5 V iCMOS Switches; GOST: Микросхема ADG1434YRUZ фирма "Analog Devices"
footprint TSSOP-20 (6.5x4.5mm H=1.2mm)
pins: 1 IN1, 2 S1A, 3 D1, 4 S1B, 5 VSS, 6 GND, 7 S2B, 8 D2, 9 S2A, 10 IN2, 11 IN3, 12 S3A, 13 D3, 14 S3B, 15 NC, 16 VDD, 17 S4B, 18 D4, 19 S4A, 20 IN4
1 alternate drawing of the same symbol

## ADG1436YCPZ
designator DA?, comment Микросхема ADG1436YCPZ фирма "Analog Devices"  (value not drawn)
Dual SPDT Switch, Low CapacitanciCMOS; GOST: Микросхема ADG1436YCPZ фирма "Analog Devices"; PartNumber: ADG1436YCPZ
footprint LFCSP-16 (CP-16-26) (16-Lead Lead Frame Chip Scale Package [LFCSP]  4 mm ? 4 mm Body and 0.75 mm Package Height  (CP-16-26))
pins: 1 D1, 2 S1B, 3 VSS, 4 GND, 5 NC, 6 IN2, 7 NC, 8 S2A, 9 D2, 10 S2B, 11 VDD, 12 EN, 13 NC, 14 NC, 15 IN1, 16 S1A, TPAD TP

## ADG1436YRUZ
designator DA?, comment PartNumber: ADG1436YRUZ  (hidden comment: Микросхема ADG1436YRUZ фирма "Analog Devices")
Dual SPDT Switch, Low CapacitanciCMOS; GOST: Микросхема ADG1436YRUZ фирма "Analog Devices"
footprint TSSOP-16 (5.1x4.5mm H=1.2mm)
pins: 1 IN1, 2 S1A, 3 D1, 4 S1B, 5 VSS, 6 GND, 7 NC, 8 NC, 9 IN2, 10 S2A, 11 D2, 12 S2B, 13 VDD, 14 NC, 15 NC, 16 NC
1 alternate drawing of the same symbol

## ADP2108AUJZ-1.8-R7
designator DA?, comment PartNumber: ADP2108AUJZ-1.8-R7  (hidden comment: Микросхема ADP2108AUJZ-1.8-R7 фирма "Analog Devices")
Compact, 600 mA, 3 MHz, Step-Down DC-to-DC Converter; GOST: Микросхема ADP2108AUJZ-1.8-R7 фирма "Analog Devices"
footprint TSOT-5 (2.9*1.6mm H=1mm (UJ-5 Analog devices))
pins: 1 Vin, 2 GND, 3 EN, 4 FB, 5 SW

## ADR441BRZ
designator DA?, comment PartNumber: ADR441BRZ  (hidden comment: Микросхема ADR441BRZ фирма "Analog Devices")
Ultralow Noise, LDO XFET Voltage Reference 2,5V with Current Sink and Source; GOST: Микросхема ADR441BRZ фирма "Analog Devices"
footprint SO-8 (S8 Package (AD)) (5x4mm H=1.75mm - S8 Package 8-Lead Plastic Small Outline (Narrow .150 Inch) (AD))
pins: 2 IN, 4 GND, 5 TRIM, 6 OUT

## ADR445BRZ
designator DA?, comment PartNumber: ADR445BRZ  (hidden comment: Микросхема ADR445BRZ фирма "Analog Devices")
Ultralow Noise, LDO XFET Voltage Reference 5V with Current Sink and Source; GOST: Микросхема ADR445BRZ фирма "Analog Devices"
footprint SO-8 (S8 Package (AD)) (5x4mm H=1.75mm - S8 Package 8-Lead Plastic Small Outline (Narrow .150 Inch) (AD))
pins: 2 IN, 4 GND, 5 TRIM, 6 OUT

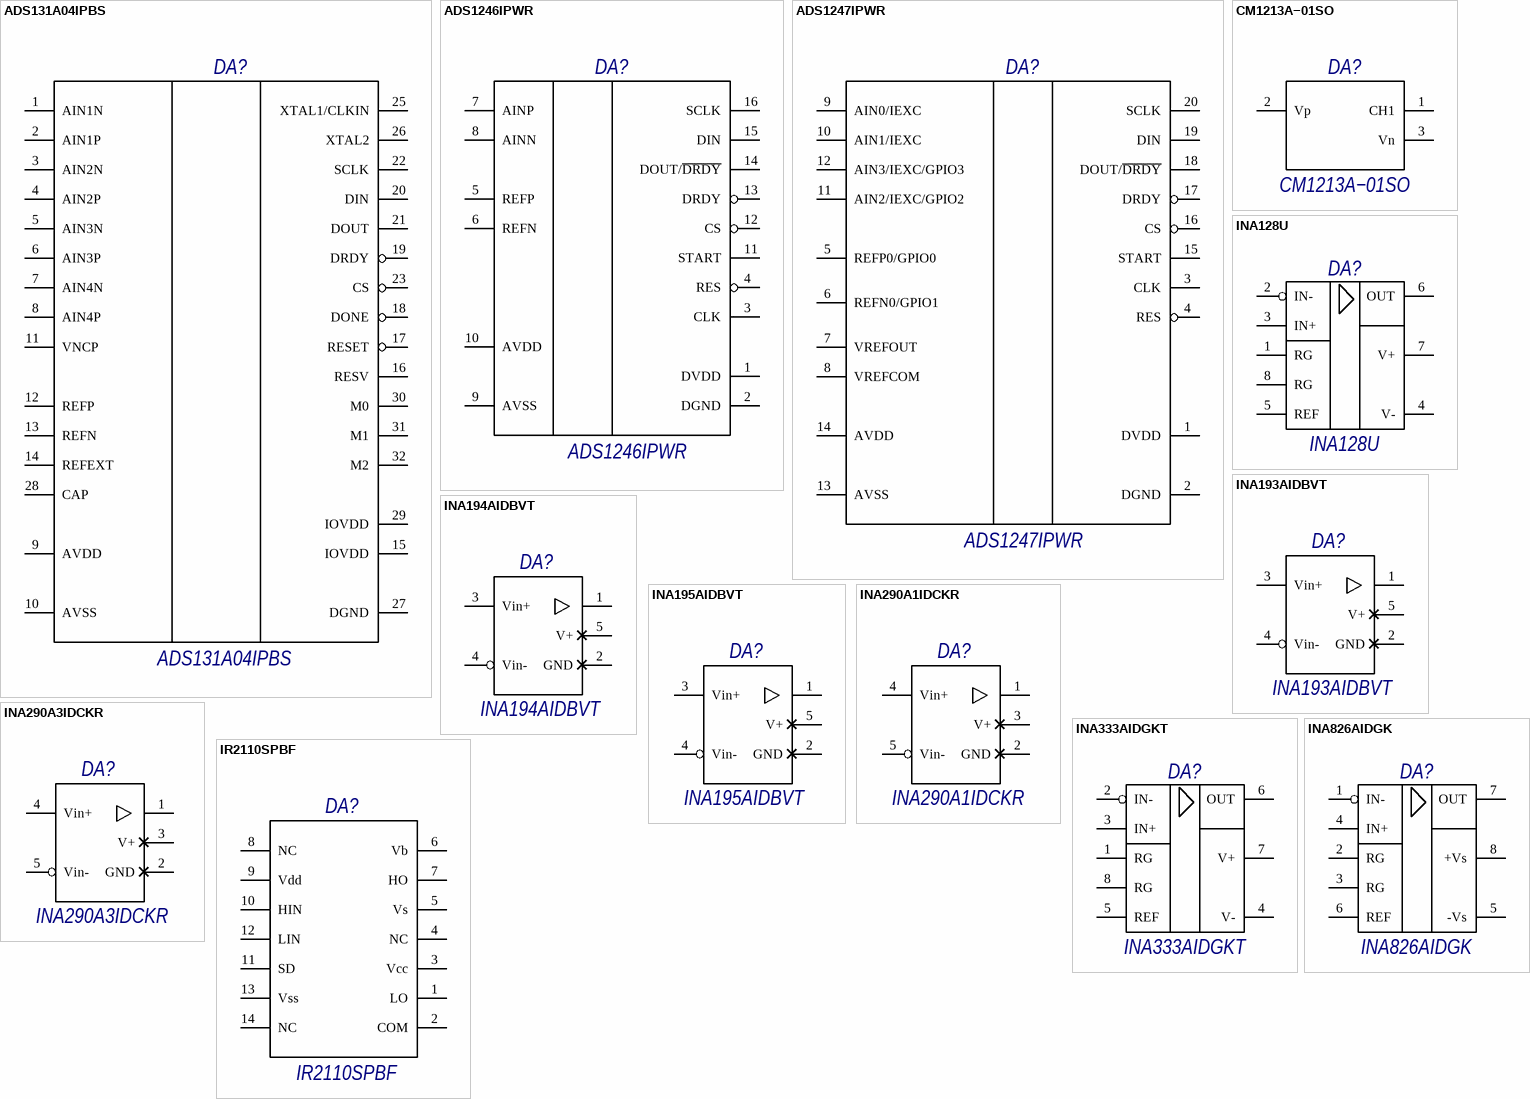
[diagram p4: symbols ADS131A04IPBS to IR2110SPBF]

## ADS131A04IPBS
designator DA?, comment PartNumber: ADS131A04IPBS  (hidden comment: Микросхема ADS131A04IPBS фирма "Texas Instruments")
ADS131A0x 2- or 4-Channel, 24-Bit, 128-kSPS, Simultaneous-Sampling, Delta-Sigma ADC; GOST: Микросхема ADS131A04IPBS фирма "Texas Instruments"
footprint PBS (S-PQFP-G32) (5mm*5mm Pitch=0.5mm H=1.2mm (TI))
pins: 1 AIN1N, 2 AIN1P, 3 AIN2N, 4 AIN2P, 5 AIN3N, 6 AIN3P, 7 AIN4N, 8 AIN4P, 9 AVDD, 10 AVSS, 11 VNCP, 12 REFP, 13 REFN, 14 REFEXT, 15 IOVDD, 16 RESV, 17 RESET, 18 DONE, 19 DRDY, 20 DIN, 21 DOUT, 22 SCLK, 23 CS, 25 XTAL1/CLKIN, 26 XTAL2, 27 DGND, 28 CAP, 29 IOVDD, 30 M0, 31 M1, 32 M2

## ADS1246IPWR
designator DA?, comment PartNumber: ADS1246IPWR  (hidden comment: Микросхема ADS1246IPWR фирма "Texas Instruments")
ADS124x24-Bit,2-kSPS,Analog-To-DigitalConvertersWithProgrammableGain Amplifier(PGA)For SensorMeasurement; GOST: Микросхема ADS1246IPWR фирма "Texas Instruments"
footprint TSSOP-16 (5.1x4.5mm H=1.2mm)
pins: 1 DVDD, 2 DGND, 3 CLK, 4 RES, 5 REFP, 6 REFN, 7 AINP, 8 AINN, 9 AVSS, 10 AVDD, 11 START, 12 CS, 13 DRDY, 14 DOUT/~{DRDY}, 15 DIN, 16 SCLK

## ADS1247IPWR
designator DA?, comment PartNumber: ADS1247IPWR  (hidden comment: Микросхема ADS1247IPWR фирма "Texas Instruments")
ADS124x24-Bit,2-kSPS,Analog-To-DigitalConvertersWithProgrammableGain Amplifier(PGA)For SensorMeasurement; GOST: Микросхема ADS1247IPWR фирма "Texas Instruments"
footprint TSSOP-20 (6.5x4.5mm H=1.2mm)
pins: 1 DVDD, 2 DGND, 3 CLK, 4 RES, 5 REFP0/GPIO0, 6 REFN0/GPIO1, 7 VREFOUT, 8 VREFCOM, 9 AIN0/IEXC, 10 AIN1/IEXC, 11 AIN2/IEXC/GPIO2, 12 AIN3/IEXC/GPIO3, 13 AVSS, 14 AVDD, 15 START, 16 CS, 17 DRDY, 18 DOUT/~{DRDY}, 19 DIN, 20 SCLK

## CM1213A−01SO
designator DA?, comment PartNumber: CM1213A−01SO  (hidden comment: Микросхема CM1213A−01SO фирма "ON Semiconductor")
ESD Protection Arrays 1-Channel; GOST: Микросхема CM1213A−01SO фирма "ON Semiconductor"
footprint SOT-23-3 (Dim 3mm*1.4mm H=1.1mm)
pins: 1 CH1, 2 Vp, 3 Vn

## INA128U
designator DA?, comment PartNumber: INA128U  (hidden comment: Микросхема INA128U фирма "Texas Instruments")
Precision, Low Power Instrumentation Amplifiers; Pattern: SO-8; Manufacturer: Texas Instruments; Name: Precision, Low Power Instrumentation Amplifiers; GOST: Микросхема INA128U фирма "Texas Instruments"
footprint D (R-PDSO-G8) (SO-8 Texas Instruments 5x4mm H=1.75mm)
pins: 1 RG, 2 IN-, 3 IN+, 4 V-, 5 REF, 6 OUT, 7 V+, 8 RG

## INA193AIDBVT
designator DA?, comment PartNumber: INA193AIDBVT  (hidden comment: Микросхема INA193AIDBVT фирма "Texas Instruments")
INA193 Current Shunt Monitor 16V to +80V Common-Mode Range GAIN 20 V/V; GOST: Микросхема INA193AIDBVT фирма "Texas Instruments"
footprint SOT-23-5
pins: 1, 2 GND, 3 Vin+, 4 Vin-, 5 V+

## INA194AIDBVT
designator DA?, comment PartNumber: INA194AIDBVT  (hidden comment: Микросхема INA194AIDBVT фирма "Texas Instruments")
INA194 Current Shunt Monitor 16V to +80V Common-Mode Range GAIN 50 V/V; GOST: Микросхема INA194AIDBVT фирма "Texas Instruments"
footprint SOT-23-5
pins: 1, 2 GND, 3 Vin+, 4 Vin-, 5 V+

## INA195AIDBVT
designator DA?, comment PartNumber: INA195AIDBVT  (hidden comment: Микросхема INA195AIDBVT фирма "Texas Instruments")
INA195 Current Shunt Monitor 16V to +80V Common-Mode Range GAIN 100 V/V; GOST: Микросхема INA195AIDBVT фирма "Texas Instruments"
footprint SOT-23-5
pins: 1, 2 GND, 3 Vin+, 4 Vin-, 5 V+

## INA290A1IDCKR
designator DA?, comment PartNumber: INA290A1IDCKR  (hidden comment: Микросхема INA290A1IDCKR фирма "Texas Instruments")
2.7-V to 120-V, 1.1-MHz, Ultra-Precise, Current-Sense Amplifier, Available gains 20 V/V; GOST: Микросхема INA290A1IDCKR фирма "Texas Instruments"
footprint DCK (R-PDSO-G5) (SC-70-5, 2.15x1.4x1.1)
pins: 1, 2 GND, 3 V+, 4 Vin+, 5 Vin-

## INA290A3IDCKR
designator DA?, comment PartNumber: INA290A3IDCKR  (hidden comment: Микросхема INA290A3IDCKR фирма "Texas Instruments")
2.7-V to 120-V, 1.1-MHz, Ultra-Precise, Current-Sense Amplifier, Available gains 100 V/V; GOST: Микросхема INA290A3IDCKR фирма "Texas Instruments"
footprint DCK (R-PDSO-G5) (SC-70-5, 2.15x1.4x1.1)
pins: 1, 2 GND, 3 V+, 4 Vin+, 5 Vin-

## INA333AIDGKT
designator DA?, comment PartNumber: INA333AIDGKT  (hidden comment: Микросхема INA333AIDGKT фирма "Texas Instruments")
Micro-Power  (50μ A), Zerø-Drift, Rail-to-Rail  Out Instrumentation  Amplifier; Manufacturer: Texas Instruments; GOST: Микросхема INA333AIDGKT фирма "Texas Instruments"
footprint DGK (S-PDSO-G8) (VSSOP-8 (MSOP-8) Texas Instruments Korp=3.1x3.1mm Pitch 0.65mm)
pins: 1 RG, 2 IN-, 3 IN+, 4 V-, 5 REF, 6 OUT, 7 V+, 8 RG

## INA826AIDGK
designator DA?, comment PartNumber: INA826AIDGK  (hidden comment: Микросхема INA826AIDGK фирма "Texas Instruments")
Precision, 200-µA Supply Current, 3-V to 36-V Supply  Instrumentation Amplifier With Rail-to-Rail Output; Manufacturer: Texas Instruments; GOST: Микросхема INA826AIDGK фирма "Texas Instruments"
footprint DGK (S-PDSO-G8) (VSSOP-8 (MSOP-8) Texas Instruments Korp=3.1x3.1mm Pitch 0.65mm)
pins: 1 IN-, 2 RG, 3 RG, 4 IN+, 5 -Vs, 6 REF, 7 OUT, 8 +Vs

## IR2110SPBF
designator DA?, comment PartNumber: IR2110SPBF  (hidden comment: Микросхема INA194AIDBVT фирма "Infineon Technologies")
Драйверы для управления затвором HI LO SIDE DRVR 500V 2A 10ns; GOST: Микросхема INA194AIDBVT фирма "Infineon Technologies"
footprint SOL-16 (10.5x10.65mm H=2.65mm Wide body)
pins: 1 LO, 2 COM, 3 Vcc, 4 NC, 5 Vs, 6 Vb, 7 HO, 8 NC, 9 Vdd, 10 HIN, 11 SD, 12 LIN, 13 Vss, 14 NC

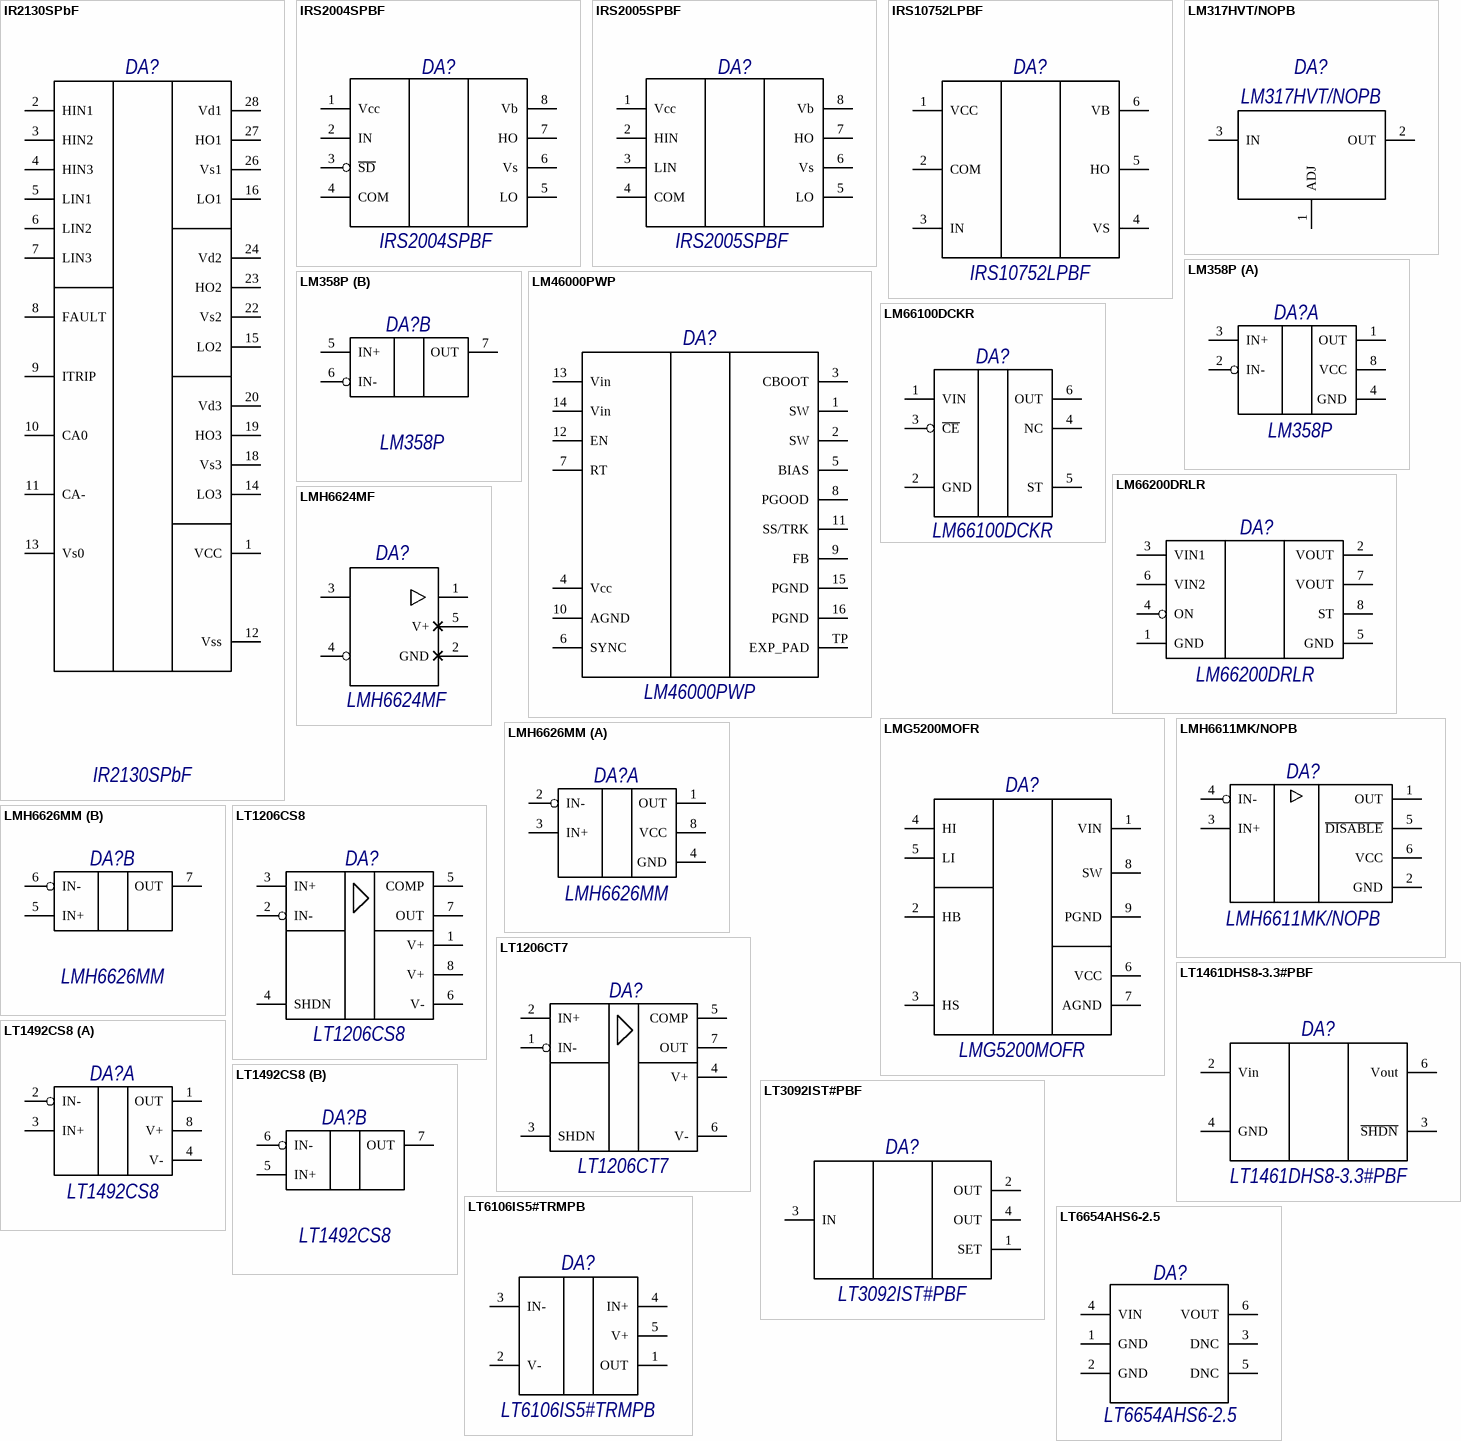
[diagram p5: symbols IR2130SPbF to LT6654AHS6-2.5]

## IR2130SPbF
designator DA?, comment PartNumber: IR2130SPbF  (hidden comment: Микросхема IR2130SPbF фирма "Infineon Technologies")
3-PHASE  BRIDGE  DRIVER; GOST: Микросхема IR2130SPbF фирма "Infineon Technologies"
footprint SO-28 Wide (18.1x10.65mm H=2.65mm)
pins: 1 VCC, 2 HIN1, 3 HIN2, 4 HIN3, 5 LIN1, 6 LIN2, 7 LIN3, 8 FAULT, 9 ITRIP, 10 CA0, 11 CA-, 12 Vss, 13 Vs0, 14 LO3, 15 LO2, 16 LO1, 18 Vs3, 19 HO3, 20 Vd3, 22 Vs2, 23 HO2, 24 Vd2, 26 Vs1, 27 HO1, 28 Vd1
1 alternate drawing of the same symbol

## IRS2004SPBF
designator DA?, comment PartNumber: IRS2004SPBF  (hidden comment: Микросхема IRS2004SPBF фирма "International Rectifier")
HALF-BRIDGE DRIVER, 125 C, SO-8; GOST: Микросхема IRS2004SPBF фирма "International Rectifier"
footprint SO-8 (5x4mm H=1.75mm)
pins: 1 Vcc, 2 IN, 3 ~{SD}, 4 COM, 5 LO, 6 Vs, 7 HO, 8 Vb

## IRS2005SPBF
designator DA?, comment PartNumber: IRS2005SPBF  (hidden comment: Микросхема IRS2005SPBF фирма "International Rectifier")
High and Low Side Driver, 125 C, SO-8; GOST: Микросхема IRS2005SPBF фирма "International Rectifier"
footprint SO-8 (5x4mm H=1.75mm)
pins: 1 Vcc, 2 HIN, 3 LIN, 4 COM, 5 LO, 6 Vs, 7 HO, 8 Vb

## IRS10752LPBF
designator DA?, comment PartNumber: IRS10752LPBF  (hidden comment: Микросхема IRS10752LPBF фирма "Infineon Technologies")
High-Side Gate Driver IC, SOT-23; GOST: Микросхема IRS10752LPBF фирма "Infineon Technologies"
footprint SOT-23-6L
pins: 1 VCC, 2 COM, 3 IN, 4 VS, 5 HO, 6 VB

## LM317HVT/NOPB
designator DA?, comment PartNumber: LM317HVT/NOPB  (hidden comment: Микросхема LM317HVT/NOPB фирма "Texas Instruments")
Linear Voltage Regulator IC 1 Output 1.5A TO-220-3; GOST: Микросхема LM317HVT/NOPB фирма "Texas Instruments"
footprint TO-220AB (vertical layout) with SK 525 30 ST (вертикальное расположение H=28mm max с радиатором SK 525 30 ST)
pins: 1 ADJ, 2 OUT, 3 IN

## LM358P
designator DA?, comment PartNumber: LM358P  (hidden comment: Микросхема LM358P фирма "Texas Instruments")
2  independent, high-gain,  frequency-compensated  operational amplifiers designed to operate from a single supply over a wide range of voltages; Pattern: SO8W; Prefix: DA; Manufacturer: Texas Instruments; GOST: Микросхема LM358P фирма "Texas Instruments"
footprint DIP8W (8-Lead Plastic Dual In-Line Package [PDIP]  Narrow Body (N-8))
part A pins: 1 OUT, 2 IN-, 3 IN+, 4 GND (power), 8 VCC (power)
part B pins: 5 IN+, 6 IN-, 7 OUT

## LM46000PWP
designator DA?, comment PartNumber: LM46000PWP  (hidden comment: Микросхема LM46000PWP фирма "Texas Instruments")
3.5-V to 60-V, 0.5-A Synchronous Step-Down Voltage Converter; GOST: Микросхема LM46000PWP фирма "Texas Instruments"
footprint PWP (HTSSOP-16) (TSSOP-16, 6.6x5.1mm, H=1.2mm (PWP016G) TI)
pins: 1 SW, 2 SW, 3 CBOOT, 4 Vcc, 5 BIAS, 6 SYNC, 7 RT, 8 PGOOD, 9 FB, 10 AGND, 11 SS/TRK, 12 EN, 13 Vin, 14 Vin, 15 PGND, 16 PGND, TP EXP_PAD

## LM66100DCKR
designator DA?, comment PartNumber: LM66100DCKR  (hidden comment: Микросхема LM66100DCKR фирма "Texas Instruments")
5.5-V, 1.5-A 79-mΩ, Low IQ Ideal Diode With Input Polarity Protection; Pattern: SC70-6; Prefix: DA; Manufacturer: Texas Instruments; GOST: Микросхема LM66100DCKR фирма "Texas Instruments"
footprint SC-70-6 (Body 2.15x1.4x1.1, pitch 0.65, size 2.15 x 2,4 x 1.1 mm)
pins: 1 VIN, 2 GND (power), 3 ~{CE}, 4 NC (power), 5 ST (power), 6 OUT

## LM66200DRLR
designator DA?, comment PartNumber: LM66200DRLR  (hidden comment: Микросхема LM66200DRLR фирма "Texas Instruments")
1.6V to 5V, 2.5A Dual Ideal Diode With Automatic Switchover; Pattern: DRL0008A (TI); Manufacturer: Texas Instruments; GOST: Микросхема LM66200DRLR фирма "Texas Instruments"
footprint DRL0008A (TI) (Body 2.2x1.3(1.7)x0.6mm step 0.5  (SOT-5X3, 0.6 mm max height))
pins: 1 GND, 2 VOUT, 3 VIN1, 4 ON, 5 GND, 6 VIN2, 7 VOUT, 8 ST

## LMG5200MOFR
designator DA?, comment PartNumber: LMG5200MOFR  (hidden comment: Микросхема LMG5200MOFR фирма "Texas Instruments")
Half Bridge Driver Synchronous Buck Converters NMOS 80V, 10A, 9-QFN (8x6); GOST: Микросхема LMG5200MOFR фирма "Texas Instruments"
footprint MOF0009A (QFM-9 Texas Instruments)
pins: 1 VIN, 2 HB, 3 HS, 4 HI, 5 LI, 6 VCC, 7 AGND, 8 SW, 9 PGND
1 alternate drawing of the same symbol

## LMH6611MK/NOPB
designator DA?, comment PartNumber: LMH6611MK/NOPB  (hidden comment: Микросхема LMH6611MK/NOPB фирма "Texas Instruments")
Single Supply 345 MHz Rail-to-Rail Output Amplifiers; Pattern: SOT-23-6; Prefix: DA; GOST: Микросхема LMH6611MK/NOPB фирма "Texas Instruments"
footprint SOT-23-6
pins: 1 OUT, 2 GND (power), 3 IN+, 4 IN-, 5 ~{DISABLE} (power), 6 VCC (power)

## LMH6624MF
designator DA?, comment PartNumber: LMH6624MF  (hidden comment: Микросхема LMH6624MF фирма "Texas Instruments")
Single Ultra Low Noise Wideband Operational Amplifier; GOST: Микросхема LMH6624MF фирма "Texas Instruments"
footprint SOT-23-5
pins: 1, 2 GND, 3, 4, 5 V+

## LMH6626MM
designator DA?, comment PartNumber: LMH6626MM  (hidden comment: Микросхема LMH6626MM фирма "Texas Instruments")
Dual, Precision Rail-to-Rail Input & Output Operational Amplifiers, 4MHz, 4V/uS; Prefix: DA; GOST: Микросхема LMH6626MM фирма "Texas Instruments"
footprint DGK (S-PDSO-G8) (VSSOP-8 (MSOP-8) Texas Instruments)
part A pins: 1 OUT, 2 IN-, 3 IN+, 4 GND (power), 8 VCC (power)
part B pins: 5 IN+, 6 IN-, 7 OUT

## LT1206CS8
designator DA?, comment PartNumber: LT1206CS8  (hidden comment: Микросхема LT1206CS8 фирма "Linear Technology")
250mA/60MHz Current Feedback Amplifier, SO-8; GOST: Микросхема LT1206CS8 фирма "Linear Technology"
footprint SO-8 (5x4mm H=1.75mm)
pins: 1 V+, 2 IN-, 3 IN+, 4 SHDN, 5 COMP, 6 V-, 7 OUT, 8 V+

## LT1206CT7
designator DA?, comment PartNumber: LT1206CT7  (hidden comment: Микросхема LT1206CT7 фирма "Linear Technology")
250mA/60MHz Current Feedback Amplifier, TO-220-7; GOST: Микросхема LT1206CT7 фирма "Linear Technology"
footprint TO-220-7 (horizontal layout) (горизонтальное расположение)
pins: 1 IN-, 2 IN+, 3 SHDN, 4 V+, 5 COMP, 6 V-, 7 OUT

## LT1461DHS8-3.3#PBF
designator DA?, comment PartNumber: LT1461DHS8-3.3#PBF  (hidden comment: Микросхема LT1461DHS8-3.3#PBF фирма "Analog Devices")
Micropower PrecisionLow Dropout Series Voltage Reference; GOST: Микросхема LT1461DHS8-3.3#PBF фирма "Analog Devices"
footprint SO-8 (S8 Package (AD)) (5x4mm H=1.75mm - S8 Package 8-Lead Plastic Small Outline (Narrow .150 Inch) (AD))
pins: 2 Vin, 3 ~{SHDN}, 4 GND, 6 Vout

## LT1492CS8
designator DA?, comment PartNumber: LT1492CS8  (hidden comment: Микросхема LT1492CS8 фирма "Linear Technology")
5MHz, 3V/µs, Low Power  Single Supply, Dual and Quad  Precision Op Amps; Pattern: SO-8; Prefix: DA; GOST: Микросхема LT1492CS8 фирма "Linear Technology"
footprint SO-8 (5x4mm H=1.75mm)
part A pins: 1 OUT, 2 IN-, 3 IN+, 4 V- (power), 8 V+ (power)
part B pins: 5 IN+, 6 IN-, 7 OUT

## LT3092IST#PBF
designator DA?, comment PartNumber: LT3092IST#PBF  (hidden comment: Микросхема LT3092IST#PBF фирма "Analog Devices")
200mA 2-Terminal  Programmable Current Source SOT-223-3; GOST: Микросхема LT3092IST#PBF фирма "Analog Devices"
footprint SOT-223 (6.7x3.7mm H=1.8mm)
pins: 1 SET, 2 OUT, 3 IN, 4 OUT

## LT6106IS5#TRMPB
designator DA?, comment PartNumber: LT6106IS5#TRMPB  (hidden comment: Микросхема LT6106IS5#TRMPB фирма "Analog Devices")
IC OP AMP CURR SENSE TSOT-23-5; GOST: Микросхема LT6106IS5#TRMPB фирма "Analog Devices"
footprint SOT-23-5
pins: 1 OUT, 2 V-, 3 IN-, 4 IN+, 5 V+

## LT6654AHS6-2.5
designator DA?, comment PartNumber: LT6654AHS6-2.5  (hidden comment: Микросхема LT6654AHS6-2.5 фирма "Analog Devices")
Series Voltage Reference IC ±0.05% TSOT-23-6; GOST: Микросхема LT6654AHS6-2.5 фирма "Analog Devices"
footprint TSOT-23-6 (Корпус 2.9х1.75х1 step 0.9mm)
pins: 1 GND, 2 GND, 3 DNC, 4 VIN, 5 DNC, 6 VOUT

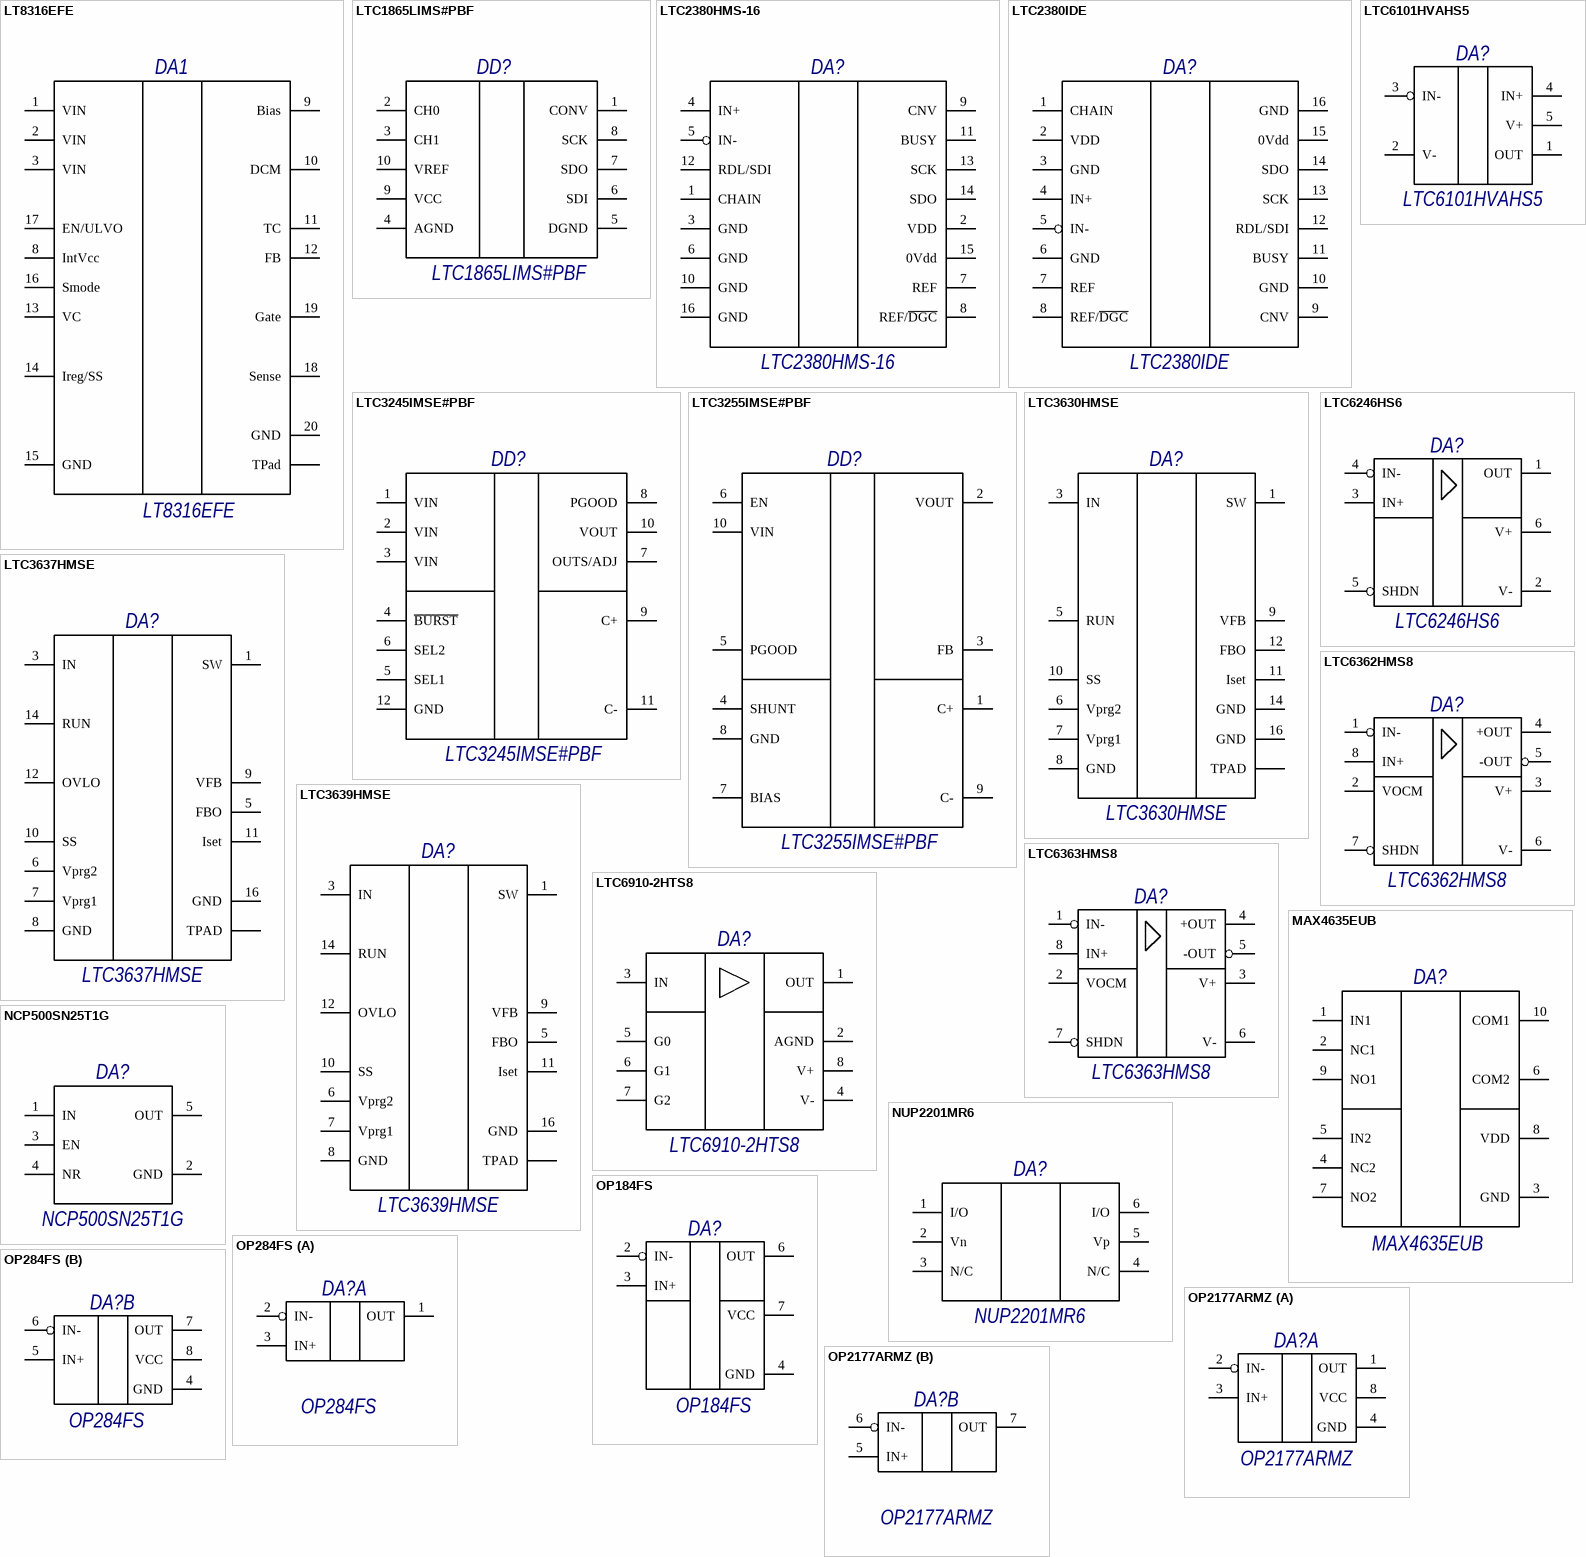
[diagram p6: symbols LT8316EFE to OP2177ARMZ]

## LT8316EFE
designator DA1, comment PartNumber: LT8316EFE  (hidden comment: Микросхема LT8316EFE фирма "Analog Devices")
600VIN Micropower No-Opto Isolated Flyback Controller; GOST: Микросхема LT8316EFE фирма "Analog Devices"
footprint TSSOP-20 var. FE20(16) (6.5x4.5mm H=1.2mm Pitch=0.65mm Linear Technology)
pins: 1 VIN, 2 VIN, 3 VIN, 8 IntVcc, 9 Bias, 10 DCM, 11 TC, 12 FB, 13 VC, 14 Ireg/SS, 15 GND, 16 Smode, 17 EN/ULVO, 18 Sense, 19 Gate, 20 GND, TP TPad

## LTC1865LIMS#PBF
designator DD?, comment PartNumber: LTC1865LIMS#PBF  (hidden comment: Микросхема LTC1865L фирма "Analog Devices")
16 Bit Analog to Digital Converter 2 Input 1 SAR 10-MSOP; GOST: Микросхема LTC1865L фирма "Analog Devices"
footprint MSOP-10 (3.1x1.1mm H=1.1mm)
pins: 1 CONV, 2 CH0, 3 CH1, 4 AGND, 5 DGND, 6 SDI, 7 SDO, 8 SCK, 9 VCC, 10 VREF

## LTC2380HMS-16
designator DA?, comment PartNumber: LTC2380HMS-16  (hidden comment: Микросхема LTC2380HMS-16 фирма "Linear Technology")
16-Bit, 2Msps, Low Power  SAR ADC with 96.2dB SNR; GOST: Микросхема LTC2380HMS-16 фирма "Linear Technology"
footprint MSOP-16 (4.1x3.1mm H=1.1mm)
pins: 1 CHAIN, 2 VDD, 3 GND, 4 IN+, 5 IN-, 6 GND, 7 REF, 8 REF/~{DGC}, 9 CNV, 10 GND, 11 BUSY, 12 RDL/SDI, 13 SCK, 14 SDO, 15 0Vdd, 16 GND

## LTC2380IDE
designator DA?, comment PartNumber: LTC2380IDE  (hidden comment: Микросхема LTC2380IDE фирма "Linear Technology")
24-Bit, 1.5Msps/2Msps,  Low Power SAR ADC with  Integrated Digital Filter; GOST: Микросхема LTC2380IDE фирма "Linear Technology"
footprint DFN-16 4x3mm (16-Lead Plastic DFN (4mm ? 3mm)  (Reference LTC DWG # 05-08-1732 Rev O))
pins: 1 CHAIN, 2 VDD, 3 GND, 4 IN+, 5 IN-, 6 GND, 7 REF, 8 REF/~{DGC}, 9 CNV, 10 GND, 11 BUSY, 12 RDL/SDI, 13 SCK, 14 SDO, 15 0Vdd, 16 GND

## LTC3245IMSE#PBF
designator DD?, comment PartNumber: LTC3245IMSE#PBF  (hidden comment: Микросхема LTC3245IMSE#PBF фирма "Analog Devices")
IC REG CHARG PUMP ADJ/PRG 12MSOP; GOST: Микросхема LTC3245IMSE#PBF фирма "Analog Devices"
footprint MSOP-12_TP (4.039x3.1mm H=1.1mm)
pins: 1 VIN, 2 VIN, 3 VIN, 4 ~{BURST}, 5 SEL1, 6 SEL2, 7 OUTS/ADJ, 8 PGOOD, 9 C+, 10 VOUT, 11 C-, 12 GND, TP GND

## LTC3255IMSE#PBF
designator DD?, comment PartNumber: LTC3255IMSE#PBF  (hidden comment: Микросхема LTC3255IMSE#PBF фирма "Analog Devices")
IC REG CHARGE PUMP ADJ 10MSOP; GOST: Микросхема LTC3255IMSE#PBF фирма "Analog Devices"
footprint MSOP-10_TP (3.1x1.1mm H=1.1mm)
pins: 1 C+, 2 VOUT, 3 FB, 4 SHUNT, 5 PGOOD, 6 EN, 7 BIAS, 8 GND, 9 C-, 10 VIN, TP GND

## LTC3630HMSE
designator DA?, comment PartNumber: LTC3630HMSE  (hidden comment: Микросхема LTC3630HMSE фирма "Linear Technology")
High Efficiency, 65V 500mA Synchronous Step-Down Converter; GOST: Микросхема LTC3630HMSE фирма "Linear Technology"
footprint MSE-16(12) (16-Lead Plastic MSOP with 4 Pins Removed  Exposed Die Pad  (Reference LTC DWG # 05-08-1871 Rev D))
pins: 1 SW, 3 IN, 5 RUN, 6 Vprg2, 7 Vprg1, 8 GND, 9 VFB, 10 SS, 11 Iset, 12 FBO, 14 GND, 16 GND, TPAD

## LTC3637HMSE
designator DA?, comment PartNumber: LTC3637HMSE  (hidden comment: Микросхема LTC3637HMSE фирма "Linear Technology")
High Efficiency, 76V 1A Step-Down Regulator; GOST: Микросхема LTC3637HMSE фирма "Linear Technology"
footprint MSE-16(12) (16-Lead Plastic MSOP with 4 Pins Removed  Exposed Die Pad  (Reference LTC DWG # 05-08-1871 Rev D))
footprint MSE-16(12) - maska (16-Lead Plastic MSOP with 4 Pins Removed  Exposed Die Pad  (Reference LTC DWG # 05-08-1871 Rev D) - изменена маска радиатора, убраны отв)
pins: 1 SW, 3 IN, 5 FBO, 6 Vprg2, 7 Vprg1, 8 GND, 9 VFB, 10 SS, 11 Iset, 12 OVLO, 14 RUN, 16 GND, TPAD

## LTC3639HMSE
designator DA?, comment PartNumber: LTC3639HMSE  (hidden comment: Микросхема LTC3639HMSE фирма "Linear Technology")
High Efficiency, 150V 100mA Synchronous Step-Down Regulator; GOST: Микросхема LTC3639HMSE фирма "Linear Technology"
footprint MSE-16(12) (16-Lead Plastic MSOP with 4 Pins Removed  Exposed Die Pad  (Reference LTC DWG # 05-08-1871 Rev D))
footprint MSE-16(12) - maska (16-Lead Plastic MSOP with 4 Pins Removed  Exposed Die Pad  (Reference LTC DWG # 05-08-1871 Rev D) - изменена маска радиатора, убраны отв)
pins: 1 SW, 3 IN, 5 FBO, 6 Vprg2, 7 Vprg1, 8 GND, 9 VFB, 10 SS, 11 Iset, 12 OVLO, 14 RUN, 16 GND, TPAD

## LTC6101HVAHS5
designator DA?, comment PartNumber: LTC6101HVAHS5  (hidden comment: Микросхема LTC6101HVAHS5 фирма "Linear Technology")
High Voltage,High-Side Current SenseAmplifier in SOT-23; Pattern: SOT-23-5; Manufacturer: Linear Technology; GOST: Микросхема LTC6101HVAHS5 фирма "Linear Technology"
footprint TSOT-5 (2.9*1.6mm H=1mm (UJ-5 Analog devices))
pins: 1 OUT, 2 V-, 3 IN-, 4 IN+, 5 V+

## LTC6246HS6
designator DA?, comment PartNumber: LTC6246HS6  (hidden comment: Микросхема LTC6246HS6 фирма "Linear Technology")
180MHz, 1mA Power  Efficient Rail-to-Rail  I/O Opamp; Pattern: TSOT-23; Manufacturer: Linear Technology; GOST: Микросхема LTC6246HS6 фирма "Linear Technology"
footprint SOT-23-6
pins: 1 OUT, 2 V-, 3 IN+, 4 IN-, 5 SHDN, 6 V+

## LTC6362HMS8
designator DA?, comment ParNumber: LTC6362HMS8  (hidden comment: Микросхема LTC6362HMS8 фирма "Linear Technology")
Precision, Low Power  Rail-to-Rail Output  Differential Op Amp; Pattern: MS8; Prefix: DA; Manufacturer: Linear Technology; GOST: Микросхема LTC6362HMS8 фирма "Linear Technology"
footprint MSOP-8 (RM-8)
pins: 1 IN-, 2 VOCM, 3 V+, 4 +OUT, 5 -OUT, 6 V-, 7 SHDN, 8 IN+

## LTC6363HMS8
designator DA?, comment PartNumber: LTC6363HMS8  (hidden comment: Микросхема LTC6363HMS8 фирма "Linear Technology")
Precision, Low Power  Rail-to-Rail Output  Differential Op Amp; Pattern: MS8; Manufacturer: Linear Technology; GOST: Микросхема LTC6363HMS8 фирма "Linear Technology"
footprint MSOP-8 (RM-8)
pins: 1 IN-, 2 VOCM, 3 V+, 4 +OUT, 5 -OUT, 6 V-, 7 SHDN, 8 IN+

## LTC6910-2HTS8
designator DA?, comment PartNumber: LTC6910-2HTS8  (hidden comment: Микросхема LTC6910-2HTS8 фирма "Analog Devices")
Programmable Gain Amplifier 1 Circuit Rail-to-Rail TSOT-23-8; GOST: Микросхема LTC6910-2HTS8 фирма "Analog Devices"
footprint TSOT-23-8 (Корпус 2.9х1.75х1 step 0.65 mm)
pins: 1 OUT, 2 AGND, 3 IN, 4 V-, 5 G0, 6 G1, 7 G2, 8 V+

## MAX4635EUB
designator DA?, comment PartNumber: MAX4635EUB  (hidden comment: Микросхема MAX4635EUB фирма "Maxim")
Fast, Low-Voltage, Dual 4Ω SPDT CMOS Analog Switches; GOST: Микросхема MAX4635EUB фирма "Maxim"
footprint MSOP-10 (3.1x1.1mm H=1.1mm)
pins: 1 IN1, 2 NC1, 3 GND, 4 NC2, 5 IN2, 6 COM2, 7 NO2, 8 VDD, 9 NO1, 10 COM1

## NCP500SN25T1G
designator DA?, comment PartNumber: NCP500SN25T1G  (hidden comment: Микросхема NCP500SN25T1G фирма "ON Semiconductor")
2,5V Voltage Regulator - CMOS,  Low Noise, Low-Dropout 150 mA; GOST: Микросхема NCP500SN25T1G фирма "ON Semiconductor"
footprint TSOP-5 (Body 3х1.5х1.1 step 0.95mm (CASE 483))
pins: 1 IN, 2 GND, 3 EN, 4 NR, 5 OUT

## NUP2201MR6
designator DA?, comment PartNumber: NUP2201MR6  (hidden comment: Микросхема NUP2201MR6 фирма "ON Semiconductor")
ESD Protection Arrays 4-Channel; GOST: Микросхема NUP2201MR6 фирма "ON Semiconductor"
footprint TSOP-6 (Корпус 3х1.5х1 step 0.95mm (CASE 318G))
pins: 1 I/O, 2 Vn, 3 N/C, 4 N/C, 5 Vp, 6 I/O

## OP184FS
designator DA?, comment PartNumber: OP184FS  (hidden comment: Микросхема OP184FS фирма "Analog Devices")
Precision Rail  -to-Rail  Input and Output Operational Ampli  fiers; Pattern: SO8; Prefix: DA; Manufacturer: Analog Devices; GOST: Микросхема OP184FS фирма "Analog Devices"
footprint SO-8 (5x4mm H=1.75mm)
pins: 2 IN-, 3 IN+, 4 GND (power), 6 OUT, 7 VCC (power)

## OP284FS
designator DA?, comment PartNumber: OP284FS  (hidden comment: Микросхема OP284FS фирма "Analog Devices")
Dual, Precision Rail-to-Rail Input & Output Operational Amplifiers, 4MHz, 4V/uS; Pattern: SO8; Prefix: DA; Manufacturer: Analog Devices; GOST: Микросхема OP284FS фирма "Analog Devices"
footprint SO-8 (5x4mm H=1.75mm)
part A pins: 1 OUT, 2 IN-, 3 IN+
part B pins: 4 GND (power), 5 IN+, 6 IN-, 7 OUT, 8 VCC (power)

## OP2177ARMZ
designator DA?, comment PartNumber: OP2177ARMZ  (hidden comment: Микросхема OP2177ARMZ фирма "Analog Devices")
Precision Low Noise, Low Input  Bias Current Operational Amplifiers; Pattern: 8-Lead MSOP (RM-8); Prefix: DA; Manufacturer: Analog Devices; Name: Operational Amplifier; GOST: Микросхема OP2177ARMZ фирма "Analog Devices"
footprint MSOP-8 (3x3mm   Micro8, RM-8)
part A pins: 1 OUT, 2 IN-, 3 IN+, 4 GND (power), 8 VCC (power)
part B pins: 5 IN+, 6 IN-, 7 OUT

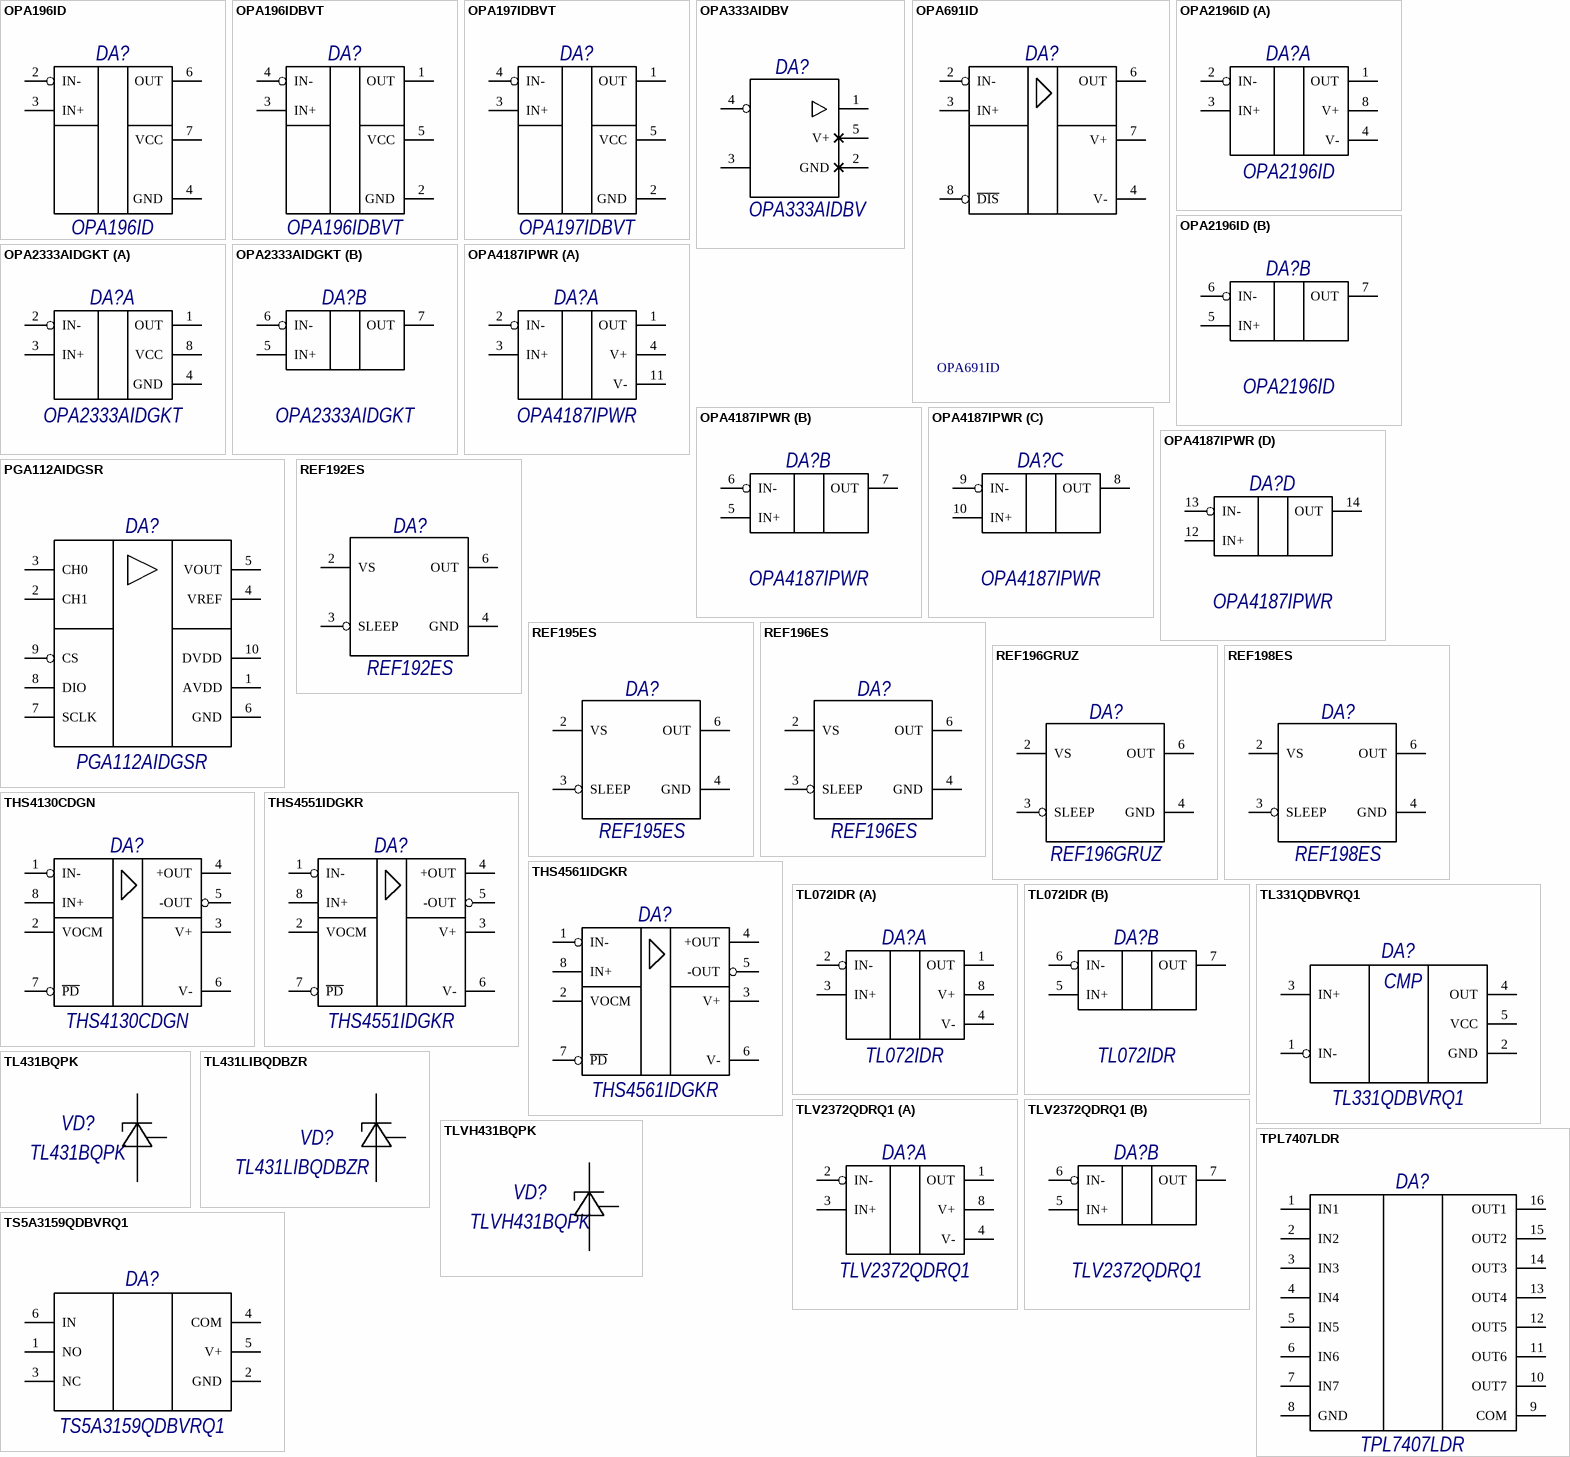
[diagram p7: symbols OPA196ID to TS5A3159QDBVRQ1]

## OPA196ID
designator DA?, comment PartNumber: OPA196ID  (hidden comment: Микросхема OPA196ID фирма "Texas Instruments")
36-V, Low-Power, Low Offset Voltage, Rail-to-Rail Operational Amplifier; Pattern: SO8; Prefix: DA; GOST: Микросхема OPA196ID фирма "Texas Instruments"
footprint D (R-PDSO-G8) (SO-8 Texas Instruments 5x4mm H=1.75mm)
pins: 2 IN-, 3 IN+, 4 GND (power), 6 OUT, 7 VCC (power)

## OPA196IDBVT
designator DA?, comment PartNumber: OPA196IDBVT  (hidden comment: Микросхема OPA196IDBVT фирма "Texas Instruments")
36-V, Low-Power, Low Offset Voltage, Rail-to-Rail Operational Amplifier; Pattern: SOT-23-5; Prefix: DA; GOST: Микросхема OPA196IDBVT фирма "Texas Instruments"
footprint SOT-23-5
pins: 1 OUT, 2 GND (power), 3 IN+, 4 IN-, 5 VCC (power)